# Altium schematic symbol library Integrated_Circuit.SchLib: 146 symbols (part 2 of 3)
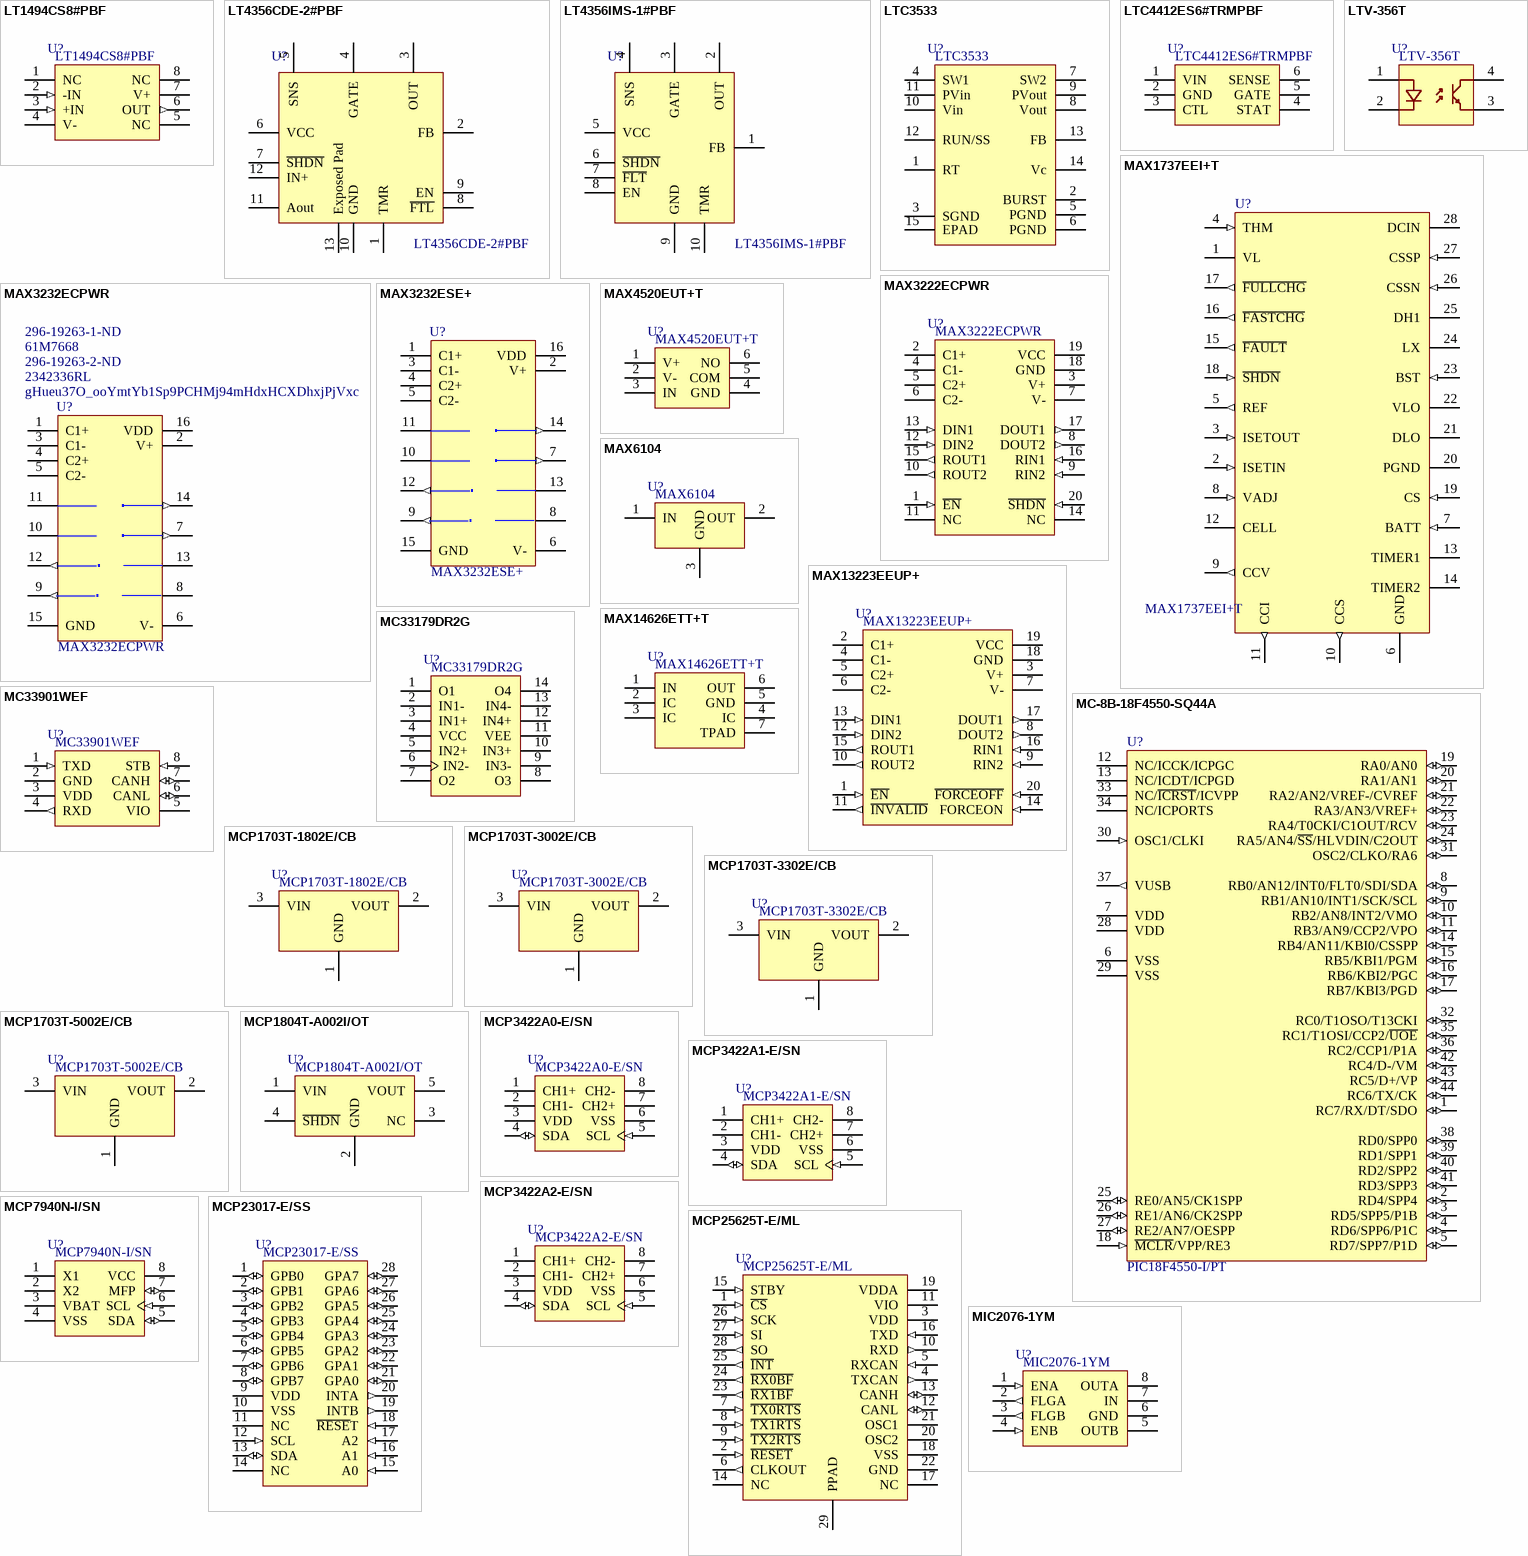
[diagram p10: symbols LT1494CS8#PBF to MIC2076-1YM]

## MCP23017-E/SS
designator U?
IC I/O EXPANDER I2C 16B 28SSOP; Manufacturer: Microchip; Mount Type: SMD; Category: IO Expander; Supplier 1: Newark; Supplier 2: Farnell; Supplier 3: Digi-Key; Supplier 4: Mouser; Supplier Part Number 1: 31K2960; Supplier Part Number 2: 1467674; Supplier Part Number 3: MCP23017-E/SS-ND; Supplier Part Number 4: 579-MCP23017-E/SS; Value: MCP23017-E/SS
footprint SSOP28
pins: 1 GPB0 (io), 2 GPB1 (io), 3 GPB2 (io), 4 GPB3 (io), 5 GPB4 (io), 6 GPB5 (io), 7 GPB6 (io), 8 GPB7 (io), 9 VDD (power), 10 VSS (power), 11 NC, 12 SCL (in), 13 SDA (io), 14 NC, 15 A0 (in), 16 A1 (in), 17 A2 (in), 18 ~{RESE}T (in), 19 INTB (out), 20 INTA (out), 21 GPA0 (io), 22 GPA1 (io), 23 GPA2 (io), 24 GPA3 (io), 25 GPA4 (io), 26 GPA5 (io), 27 GPA6 (io), 28 GPA7 (io)

## MCP25625T-E/ML
designator U?
IC TRANSCEIVER 1/1 28QFN; Manufacturer: Microchip Technology; Mount Type: SMD; Category: Interface; Value: MCP25625T-E/ML
footprint QFN-28 (QFN, 28 Pin, 0,65mm Pitch)
pins: 1 ~{CS} (in), 2 ~{RESET} (in), 3 VDD (power), 4 TXCAN (out), 5 RXCAN (in), 6 CLKOUT (out), 7 ~{TX0RTS} (in), 8 ~{TX1RTS} (in), 9 ~{TX2RTS} (in), 10 RXD (out), 11 VIO (power), 12 CANL (io), 13 CANH (io), 14 NC, 15 STBY (in), 16 TXD (in), 17 NC, 18 VSS (power), 19 VDDA (power), 20 OSC2, 21 OSC1, 22 GND (power), 23 ~{RX1BF} (out), 24 ~{RX0BF} (out), 25 ~{INT} (out), 26 SCK (in), 27 SI (in), 28 SO (out), 29 PPAD
1 alternate drawing of the same symbol

## MIC2076-1YM
designator U?
IC DISTRIBUTION SW DUAL 8-SOIC; Manufacturer: Microchip Technology; Mount Type: SMD; Category: Power Switch; Supplier 1: Farnell; Supplier Part Number 1: 2100282; Supplier 2: Digikey; Supplier Part Number 2: 576-2145-ND; Supplier 3: Arrow; Supplier Part Number 3: MIC2076-1YM; Supplier 4: Newark; Supplier Part Number 4: 93T9522; Supplier 5: Mouser; Supplier Part Number 5: 998-MIC2076-1YM; Value: MIC2076-1YM
footprint SOIC-8 (SOIC, 8 Pin, Pitch 1,27mm)
pins: 1 ENA (in), 2 FLGA (out), 3 FLGB (out), 4 ENB (in), 5 OUTB, 6 GND (power), 7 IN (power), 8 OUTA

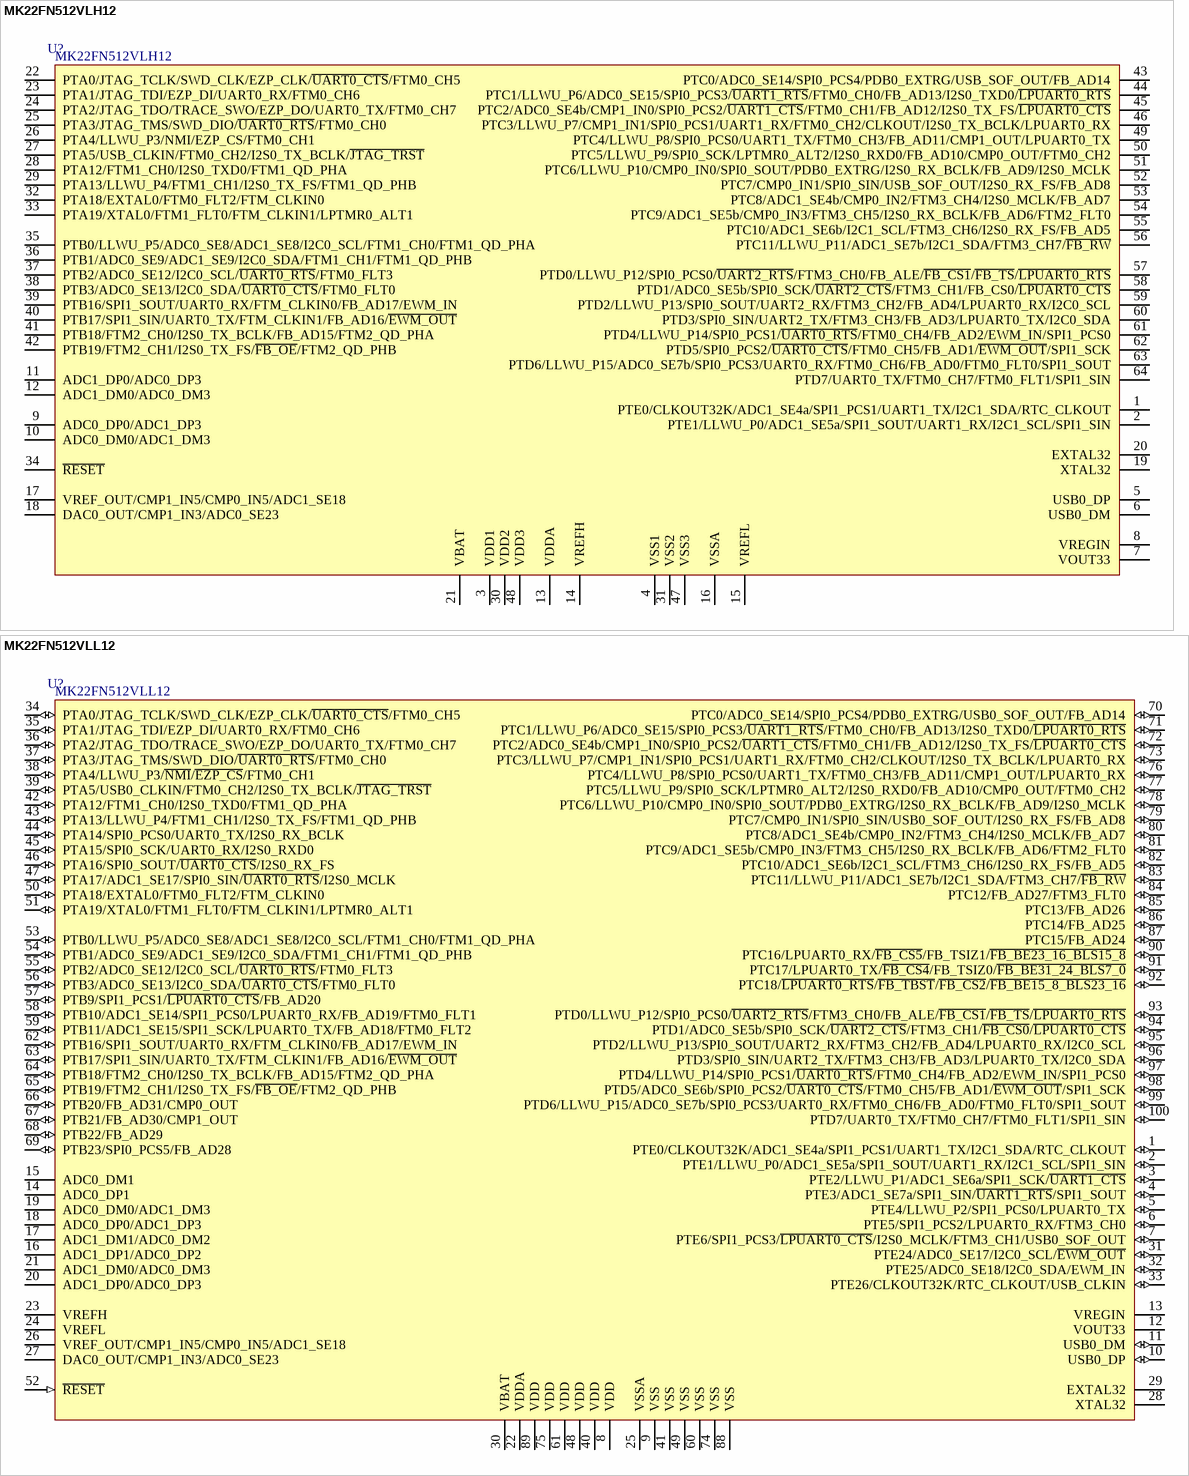
[diagram p4: symbols MK22FN512VLH12 to MK22FN512VLL12]

## MK22FN512VLH12
designator U?
IC MCU ARM 512KB FLASH 64LQFP; Manufacturer: Freescale Semiconductor; Mount type: SMD; Category: Microcontroller; Supplier 1: Digi-Key; Supplier Part Number 1: MK22FN512VLH12-ND; Supplier 2: Mouser; Supplier Part Number 2: 841-MK22FN512VLH12; Supplier 3: Farnell; Supplier Part Number 3: 2428289; Supplier 4: Farnell; Supplier Part Number 4: 2434224; Value: MK22FN512VLH12
footprint LQFP-64
pins: 1 PTE0/CLKOUT32K/ADC1_SE4a/SPI1_PCS1/UART1_TX/I2C1_SDA/RTC_CLKOUT, 2 PTE1/LLWU_P0/ADC1_SE5a/SPI1_SOUT/UART1_RX/I2C1_SCL/SPI1_SIN, 3 VDD1, 4 VSS1, 5 USB0_DP, 6 USB0_DM, 7 VOUT33, 8 VREGIN, 9 ADC0_DP0/ADC1_DP3, 10 ADC0_DM0/ADC1_DM3, 11 ADC1_DP0/ADC0_DP3, 12 ADC1_DM0/ADC0_DM3, 13 VDDA, 14 VREFH, 15 VREFL, 16 VSSA, 17 VREF_OUT/CMP1_IN5/CMP0_IN5/ADC1_SE18, 18 DAC0_OUT/CMP1_IN3/ADC0_SE23, 19 XTAL32, 20 EXTAL32, 21 VBAT, 22 PTA0/JTAG_TCLK/SWD_CLK/EZP_CLK/~{UART0_CTS}/FTM0_CH5, 23 PTA1/JTAG_TDI/EZP_DI/UART0_RX/FTM0_CH6, 24 PTA2/JTAG_TDO/TRACE_SWO/EZP_DO/UART0_TX/FTM0_CH7, 25 PTA3/JTAG_TMS/SWD_DIO/~{UART0_RTS}/FTM0_CH0, 26 PTA4/LLWU_P3/NMI/EZP_CS/FTM0_CH1, 27 PTA5/USB_CLKIN/FTM0_CH2/I2S0_TX_BCLK/~{JTAG_TRST}, 28 PTA12/FTM1_CH0/I2S0_TXD0/FTM1_QD_PHA, 29 PTA13/LLWU_P4/FTM1_CH1/I2S0_TX_FS/FTM1_QD_PHB, 30 VDD2, 31 VSS2, 32 PTA18/EXTAL0/FTM0_FLT2/FTM_CLKIN0, 33 PTA19/XTAL0/FTM1_FLT0/FTM_CLKIN1/LPTMR0_ALT1, 34 ~{RESET}, 35 PTB0/LLWU_P5/ADC0_SE8/ADC1_SE8/I2C0_SCL/FTM1_CH0/FTM1_QD_PHA, 36 PTB1/ADC0_SE9/ADC1_SE9/I2C0_SDA/FTM1_CH1/FTM1_QD_PHB, 37 PTB2/ADC0_SE12/I2C0_SCL/~{UART0_RTS}/FTM0_FLT3, 38 PTB3/ADC0_SE13/I2C0_SDA/~{UART0_CTS}/FTM0_FLT0, 39 PTB16/SPI1_SOUT/UART0_RX/FTM_CLKIN0/FB_AD17/EWM_IN, 40 PTB17/SPI1_SIN/UART0_TX/FTM_CLKIN1/FB_AD16/~{EWM_OUT}, 41 PTB18/FTM2_CH0/I2S0_TX_BCLK/FB_AD15/FTM2_QD_PHA, 42 PTB19/FTM2_CH1/I2S0_TX_FS/~{FB_OE}/FTM2_QD_PHB, 43 PTC0/ADC0_SE14/SPI0_PCS4/PDB0_EXTRG/USB_SOF_OUT/FB_AD14, 44 PTC1/LLWU_P6/ADC0_SE15/SPI0_PCS3/~{UART1_RTS}/FTM0_CH0/FB_AD13/I2S0_TXD0/~{LPUART0_RTS}, 45 PTC2/ADC0_SE4b/CMP1_IN0/SPI0_PCS2/~{UART1_CTS}/FTM0_CH1/FB_AD12/I2S0_TX_FS/~{LPUART0_CTS}, 46 PTC3/LLWU_P7/CMP1_IN1/SPI0_PCS1/UART1_RX/FTM0_CH2/CLKOUT/I2S0_TX_BCLK/LPUART0_RX, 47 VSS3, 48 VDD3, 49 PTC4/LLWU_P8/SPI0_PCS0/UART1_TX/FTM0_CH3/FB_AD11/CMP1_OUT/LPUART0_TX, 50 PTC5/LLWU_P9/SPI0_SCK/LPTMR0_ALT2/I2S0_RXD0/FB_AD10/CMP0_OUT/FTM0_CH2, 51 PTC6/LLWU_P10/CMP0_IN0/SPI0_SOUT/PDB0_EXTRG/I2S0_RX_BCLK/FB_AD9/I2S0_MCLK, 52 PTC7/CMP0_IN1/SPI0_SIN/USB_SOF_OUT/I2S0_RX_FS/FB_AD8, 53 PTC8/ADC1_SE4b/CMP0_IN2/FTM3_CH4/I2S0_MCLK/FB_AD7, 54 PTC9/ADC1_SE5b/CMP0_IN3/FTM3_CH5/I2S0_RX_BCLK/FB_AD6/FTM2_FLT0, 55 PTC10/ADC1_SE6b/I2C1_SCL/FTM3_CH6/I2S0_RX_FS/FB_AD5, 56 PTC11/LLWU_P11/ADC1_SE7b/I2C1_SDA/FTM3_CH7/~{FB_RW}, 57 PTD0/LLWU_P12/SPI0_PCS0/~{UART2_RTS}/FTM3_CH0/FB_ALE/~{FB_CS1}/~{FB_TS}/~{LPUART0_RTS}, 58 PTD1/ADC0_SE5b/SPI0_SCK/~{UART2_CTS}/FTM3_CH1/FB_CS0/~{LPUART0_CTS}, 59 PTD2/LLWU_P13/SPI0_SOUT/UART2_RX/FTM3_CH2/FB_AD4/LPUART0_RX/I2C0_SCL, 60 PTD3/SPI0_SIN/UART2_TX/FTM3_CH3/FB_AD3/LPUART0_TX/I2C0_SDA, 61 PTD4/LLWU_P14/SPI0_PCS1/~{UART0_RTS}/FTM0_CH4/FB_AD2/EWM_IN/SPI1_PCS0, 62 PTD5/SPI0_PCS2/~{UART0_CTS}/FTM0_CH5/FB_AD1/~{EWM_OUT}/SPI1_SCK, 63 PTD6/LLWU_P15/ADC0_SE7b/SPI0_PCS3/UART0_RX/FTM0_CH6/FB_AD0/FTM0_FLT0/SPI1_SOUT, 64 PTD7/UART0_TX/FTM0_CH7/FTM0_FLT1/SPI1_SIN

## MK22FN512VLL12
designator U?
IC MCU ARM 512KB FLASH 100LQFP; Manufacturer: Freescale Semiconductor; Mount type: SMD; Category: Microcontroller; Supplier 1: Digi-Key; Supplier Part Number 1: MK22FN512VLL12-ND; Supplier 2: Mouser; Supplier Part Number 2: 841-MK22FN512VLL12; Supplier 3: Newark; Supplier Part Number 3: 79X1565; Supplier 4: Farnell; Supplier Part Number 4: 2434225; Value: MK22FN512VLL12
footprint LQFP-100
pins: 1 PTE0/CLKOUT32K/ADC1_SE4a/SPI1_PCS1/UART1_TX/I2C1_SDA/RTC_CLKOUT (io), 2 PTE1/LLWU_P0/ADC1_SE5a/SPI1_SOUT/UART1_RX/I2C1_SCL/SPI1_SIN (io), 3 PTE2/LLWU_P1/ADC1_SE6a/SPI1_SCK/~{UART1_CTS} (io), 4 PTE3/ADC1_SE7a/SPI1_SIN/~{UART1_RTS}/SPI1_SOUT (io), 5 PTE4/LLWU_P2/SPI1_PCS0/LPUART0_TX (io), 6 PTE5/SPI1_PCS2/LPUART0_RX/FTM3_CH0 (io), 7 PTE6/SPI1_PCS3/~{LPUART0_CTS}/I2S0_MCLK/FTM3_CH1/USB0_SOF_OUT (io), 8 VDD (power), 9 VSS (power), 10 USB0_DP (io), 11 USB0_DM (io), 12 VOUT33, 13 VREGIN, 14 ADC0_DP1, 15 ADC0_DM1, 16 ADC1_DP1/ADC0_DP2, 17 ADC1_DM1/ADC0_DM2, 18 ADC0_DP0/ADC1_DP3, 19 ADC0_DM0/ADC1_DM3, 20 ADC1_DP0/ADC0_DP3, 21 ADC1_DM0/ADC0_DM3, 22 VDDA (power), 23 VREFH, 24 VREFL, 25 VSSA (power), 26 VREF_OUT/CMP1_IN5/CMP0_IN5/ADC1_SE18, 27 DAC0_OUT/CMP1_IN3/ADC0_SE23, 28 XTAL32, 29 EXTAL32, 30 VBAT (power), 31 PTE24/ADC0_SE17/I2C0_SCL/~{EWM_OUT} (io), 32 PTE25/ADC0_SE18/I2C0_SDA/EWM_IN (io), 33 PTE26/CLKOUT32K/RTC_CLKOUT/USB_CLKIN (io), 34 PTA0/JTAG_TCLK/SWD_CLK/EZP_CLK/~{UART0_CTS}/FTM0_CH5 (io), 35 PTA1/JTAG_TDI/EZP_DI/UART0_RX/FTM0_CH6 (io), 36 PTA2/JTAG_TDO/TRACE_SWO/EZP_DO/UART0_TX/FTM0_CH7 (io), 37 PTA3/JTAG_TMS/SWD_DIO/~{UART0_RTS}/FTM0_CH0 (io), 38 PTA4/LLWU_P3/~{NMI}/~{EZP_CS}/FTM0_CH1 (io), 39 PTA5/USB0_CLKIN/FTM0_CH2/I2S0_TX_BCLK/~{JTAG_TRST} (io), 40 VDD (power), 41 VSS (power), 42 PTA12/FTM1_CH0/I2S0_TXD0/FTM1_QD_PHA (io), 43 PTA13/LLWU_P4/FTM1_CH1/I2S0_TX_FS/FTM1_QD_PHB (io), 44 PTA14/SPI0_PCS0/UART0_TX/I2S0_RX_BCLK (io), 45 PTA15/SPI0_SCK/UART0_RX/I2S0_RXD0 (io), 46 PTA16/SPI0_SOUT/~{UART0_CTS}/I2S0_RX_FS (io), 47 PTA17/ADC1_SE17/SPI0_SIN/~{UART0_RTS}/I2S0_MCLK (io), 48 VDD (power), 49 VSS (power), 50 PTA18/EXTAL0/FTM0_FLT2/FTM_CLKIN0 (io), 51 PTA19/XTAL0/FTM1_FLT0/FTM_CLKIN1/LPTMR0_ALT1 (io), 52 ~{RESET} (in), 53 PTB0/LLWU_P5/ADC0_SE8/ADC1_SE8/I2C0_SCL/FTM1_CH0/FTM1_QD_PHA (io), 54 PTB1/ADC0_SE9/ADC1_SE9/I2C0_SDA/FTM1_CH1/FTM1_QD_PHB (io), 55 PTB2/ADC0_SE12/I2C0_SCL/~{UART0_RTS}/FTM0_FLT3 (io), 56 PTB3/ADC0_SE13/I2C0_SDA/~{UART0_CTS}/FTM0_FLT0 (io), 57 PTB9/SPI1_PCS1/~{LPUART0_CTS}/FB_AD20 (io), 58 PTB10/ADC1_SE14/SPI1_PCS0/LPUART0_RX/FB_AD19/FTM0_FLT1 (io), 59 PTB11/ADC1_SE15/SPI1_SCK/LPUART0_TX/FB_AD18/FTM0_FLT2 (io), 60 VSS (power), 61 VDD (power), 62 PTB16/SPI1_SOUT/UART0_RX/FTM_CLKIN0/FB_AD17/EWM_IN (io), 63 PTB17/SPI1_SIN/UART0_TX/FTM_CLKIN1/FB_AD16/~{EWM_OUT} (io), 64 PTB18/FTM2_CH0/I2S0_TX_BCLK/FB_AD15/FTM2_QD_PHA (io), 65 PTB19/FTM2_CH1/I2S0_TX_FS/~{FB_OE}/FTM2_QD_PHB (io), 66 PTB20/FB_AD31/CMP0_OUT (io), 67 PTB21/FB_AD30/CMP1_OUT (io), 68 PTB22/FB_AD29 (io), 69 PTB23/SPI0_PCS5/FB_AD28 (io), 70 PTC0/ADC0_SE14/SPI0_PCS4/PDB0_EXTRG/USB0_SOF_OUT/FB_AD14 (io), 71 PTC1/LLWU_P6/ADC0_SE15/SPI0_PCS3/~{UART1_RTS}/FTM0_CH0/FB_AD13/I2S0_TXD0/~{LPUART0_RTS} (io), 72 PTC2/ADC0_SE4b/CMP1_IN0/SPI0_PCS2/~{UART1_CTS}/FTM0_CH1/FB_AD12/I2S0_TX_FS/~{LPUART0_CTS} (io), 73 PTC3/LLWU_P7/CMP1_IN1/SPI0_PCS1/UART1_RX/FTM0_CH2/CLKOUT/I2S0_TX_BCLK/LPUART0_RX (io), 74 VSS (power), 75 VDD (power), 76 PTC4/LLWU_P8/SPI0_PCS0/UART1_TX/FTM0_CH3/FB_AD11/CMP1_OUT/LPUART0_RX (io), 77 PTC5/LLWU_P9/SPI0_SCK/LPTMR0_ALT2/I2S0_RXD0/FB_AD10/CMP0_OUT/FTM0_CH2 (io), 78 PTC6/LLWU_P10/CMP0_IN0/SPI0_SOUT/PDB0_EXTRG/I2S0_RX_BCLK/FB_AD9/I2S0_MCLK (io), 79 PTC7/CMP0_IN1/SPI0_SIN/USB0_SOF_OUT/I2S0_RX_FS/FB_AD8 (io), 80 PTC8/ADC1_SE4b/CMP0_IN2/FTM3_CH4/I2S0_MCLK/FB_AD7 (io), 81 PTC9/ADC1_SE5b/CMP0_IN3/FTM3_CH5/I2S0_RX_BCLK/FB_AD6/FTM2_FLT0 (io), 82 PTC10/ADC1_SE6b/I2C1_SCL/FTM3_CH6/I2S0_RX_FS/FB_AD5 (io), 83 PTC11/LLWU_P11/ADC1_SE7b/I2C1_SDA/FTM3_CH7/~{FB_RW} (io), 84 PTC12/FB_AD27/FTM3_FLT0 (io), 85 PTC13/FB_AD26 (io), 86 PTC14/FB_AD25 (io), 87 PTC15/FB_AD24 (io), 88 VSS (power), 89 VDD (power), 90 PTC16/LPUART0_RX/~{FB_CS5}/FB_TSIZ1/~{FB_BE23_16_BLS15_8} (io), 91 PTC17/LPUART0_TX/~{FB_CS4}/FB_TSIZ0/~{FB_BE31_24_BLS7_0} (io), 92 PTC18/~{LPUART0_RTS}/~{FB_TBST}/~{FB_CS2}/~{FB_BE15_8_BLS23_16} (io), 93 PTD0/LLWU_P12/SPI0_PCS0/~{UART2_RTS}/FTM3_CH0/FB_ALE/~{FB_CS1}/~{FB_TS}/~{LPUART0_RTS} (io), 94 PTD1/ADC0_SE5b/SPI0_SCK/~{UART2_CTS}/FTM3_CH1/~{FB_CS0}/~{LPUART0_CTS} (io), 95 PTD2/LLWU_P13/SPI0_SOUT/UART2_RX/FTM3_CH2/FB_AD4/LPUART0_RX/I2C0_SCL (io), 96 PTD3/SPI0_SIN/UART2_TX/FTM3_CH3/FB_AD3/LPUART0_TX/I2C0_SDA (io), 97 PTD4/LLWU_P14/SPI0_PCS1/~{UART0_RTS}/FTM0_CH4/FB_AD2/EWM_IN/SPI1_PCS0 (io), 98 PTD5/ADC0_SE6b/SPI0_PCS2/~{UART0_CTS}/FTM0_CH5/FB_AD1/~{EWM_OUT}/SPI1_SCK (io), 99 PTD6/LLWU_P15/ADC0_SE7b/SPI0_PCS3/UART0_RX/FTM0_CH6/FB_AD0/FTM0_FLT0/SPI1_SOUT (io), 100 PTD7/UART0_TX/FTM0_CH7/FTM0_FLT1/SPI1_SIN (io)

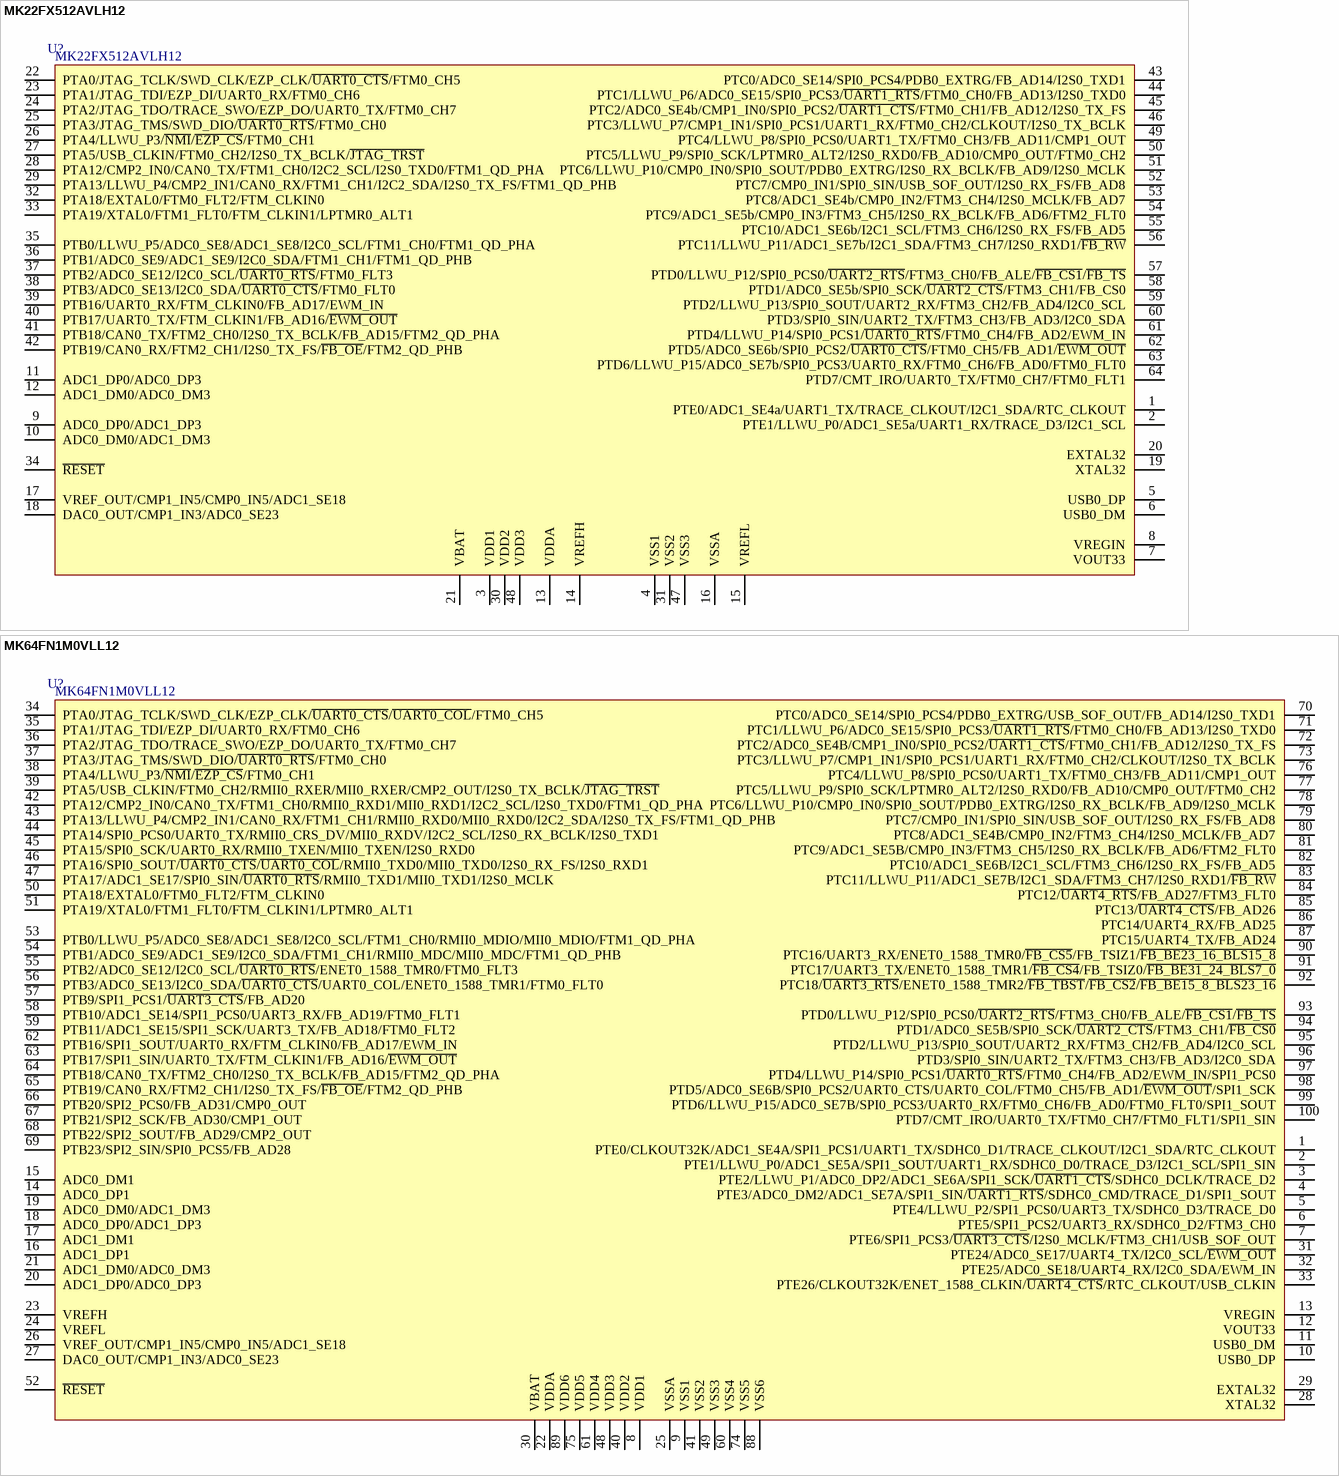
[diagram p5: symbols MK22FX512AVLH12 to MK64FN1M0VLL12]

## MK22FX512AVLH12
designator U?
IC MCU 32BIT 512KB FLASH 64LQFP; Manufacturer: Freescale Semiconductor; Mount type: SMD; Category: Microcontroller; Supplier 1: Digi-Key; Supplier Part Number 1: MK22FX512AVLH12-ND; Supplier 2: Newark; Supplier Part Number 2: 30Y6733; Value: MK22FX512AVLH12
footprint LQFP-64
pins: 1 PTE0/ADC1_SE4a/UART1_TX/TRACE_CLKOUT/I2C1_SDA/RTC_CLKOUT, 2 PTE1/LLWU_P0/ADC1_SE5a/UART1_RX/TRACE_D3/I2C1_SCL, 3 VDD1, 4 VSS1, 5 USB0_DP, 6 USB0_DM, 7 VOUT33, 8 VREGIN, 9 ADC0_DP0/ADC1_DP3, 10 ADC0_DM0/ADC1_DM3, 11 ADC1_DP0/ADC0_DP3, 12 ADC1_DM0/ADC0_DM3, 13 VDDA, 14 VREFH, 15 VREFL, 16 VSSA, 17 VREF_OUT/CMP1_IN5/CMP0_IN5/ADC1_SE18, 18 DAC0_OUT/CMP1_IN3/ADC0_SE23, 19 XTAL32, 20 EXTAL32, 21 VBAT, 22 PTA0/JTAG_TCLK/SWD_CLK/EZP_CLK/~{UART0_CTS}/FTM0_CH5, 23 PTA1/JTAG_TDI/EZP_DI/UART0_RX/FTM0_CH6, 24 PTA2/JTAG_TDO/TRACE_SWO/EZP_DO/UART0_TX/FTM0_CH7, 25 PTA3/JTAG_TMS/SWD_DIO/~{UART0_RTS}/FTM0_CH0, 26 PTA4/LLWU_P3/~{NMI}/~{EZP_CS}/FTM0_CH1, 27 PTA5/USB_CLKIN/FTM0_CH2/I2S0_TX_BCLK/~{JTAG_TRST}, 28 PTA12/CMP2_IN0/CAN0_TX/FTM1_CH0/I2C2_SCL/I2S0_TXD0/FTM1_QD_PHA, 29 PTA13/LLWU_P4/CMP2_IN1/CAN0_RX/FTM1_CH1/I2C2_SDA/I2S0_TX_FS/FTM1_QD_PHB, 30 VDD2, 31 VSS2, 32 PTA18/EXTAL0/FTM0_FLT2/FTM_CLKIN0, 33 PTA19/XTAL0/FTM1_FLT0/FTM_CLKIN1/LPTMR0_ALT1, 34 ~{RESET}, 35 PTB0/LLWU_P5/ADC0_SE8/ADC1_SE8/I2C0_SCL/FTM1_CH0/FTM1_QD_PHA, 36 PTB1/ADC0_SE9/ADC1_SE9/I2C0_SDA/FTM1_CH1/FTM1_QD_PHB, 37 PTB2/ADC0_SE12/I2C0_SCL/~{UART0_RTS}/FTM0_FLT3, 38 PTB3/ADC0_SE13/I2C0_SDA/~{UART0_CTS}/FTM0_FLT0, 39 PTB16/UART0_RX/FTM_CLKIN0/FB_AD17/EWM_IN, 40 PTB17/UART0_TX/FTM_CLKIN1/FB_AD16/~{EWM_OUT}, 41 PTB18/CAN0_TX/FTM2_CH0/I2S0_TX_BCLK/FB_AD15/FTM2_QD_PHA, 42 PTB19/CAN0_RX/FTM2_CH1/I2S0_TX_FS/~{FB_OE}/FTM2_QD_PHB, 43 PTC0/ADC0_SE14/SPI0_PCS4/PDB0_EXTRG/FB_AD14/I2S0_TXD1, 44 PTC1/LLWU_P6/ADC0_SE15/SPI0_PCS3/~{UART1_RTS}/FTM0_CH0/FB_AD13/I2S0_TXD0, 45 PTC2/ADC0_SE4b/CMP1_IN0/SPI0_PCS2/~{UART1_CTS}/FTM0_CH1/FB_AD12/I2S0_TX_FS, 46 PTC3/LLWU_P7/CMP1_IN1/SPI0_PCS1/UART1_RX/FTM0_CH2/CLKOUT/I2S0_TX_BCLK, 47 VSS3, 48 VDD3, 49 PTC4/LLWU_P8/SPI0_PCS0/UART1_TX/FTM0_CH3/FB_AD11/CMP1_OUT, 50 PTC5/LLWU_P9/SPI0_SCK/LPTMR0_ALT2/I2S0_RXD0/FB_AD10/CMP0_OUT/FTM0_CH2, 51 PTC6/LLWU_P10/CMP0_IN0/SPI0_SOUT/PDB0_EXTRG/I2S0_RX_BCLK/FB_AD9/I2S0_MCLK, 52 PTC7/CMP0_IN1/SPI0_SIN/USB_SOF_OUT/I2S0_RX_FS/FB_AD8, 53 PTC8/ADC1_SE4b/CMP0_IN2/FTM3_CH4/I2S0_MCLK/FB_AD7, 54 PTC9/ADC1_SE5b/CMP0_IN3/FTM3_CH5/I2S0_RX_BCLK/FB_AD6/FTM2_FLT0, 55 PTC10/ADC1_SE6b/I2C1_SCL/FTM3_CH6/I2S0_RX_FS/FB_AD5, 56 PTC11/LLWU_P11/ADC1_SE7b/I2C1_SDA/FTM3_CH7/I2S0_RXD1/~{FB_RW}, 57 PTD0/LLWU_P12/SPI0_PCS0/~{UART2_RTS}/FTM3_CH0/FB_ALE/~{FB_CS1}/~{FB_TS}, 58 PTD1/ADC0_SE5b/SPI0_SCK/~{UART2_CTS}/FTM3_CH1/FB_CS0, 59 PTD2/LLWU_P13/SPI0_SOUT/UART2_RX/FTM3_CH2/FB_AD4/I2C0_SCL, 60 PTD3/SPI0_SIN/UART2_TX/FTM3_CH3/FB_AD3/I2C0_SDA, 61 PTD4/LLWU_P14/SPI0_PCS1/~{UART0_RTS}/FTM0_CH4/FB_AD2/EWM_IN, 62 PTD5/ADC0_SE6b/SPI0_PCS2/~{UART0_CTS}/FTM0_CH5/FB_AD1/~{EWM_OUT}, 63 PTD6/LLWU_P15/ADC0_SE7b/SPI0_PCS3/UART0_RX/FTM0_CH6/FB_AD0/FTM0_FLT0, 64 PTD7/CMT_IRO/UART0_TX/FTM0_CH7/FTM0_FLT1

## MK64FN1M0VLL12
designator U?
IC MCU KINETIS 1MB 100LQFP; Manufacturer: Freescale Semiconductor; Mount type: SMD; Category: Microcontroller; Supplier 1: Digi-Key; Supplier Part Number 1: MK64FN1M0VLL12-ND; Value: MK64FN1M0VLL12
footprint LQFP-100
pins: 1 PTE0/CLKOUT32K/ADC1_SE4A/SPI1_PCS1/UART1_TX/SDHC0_D1/TRACE_CLKOUT/I2C1_SDA/RTC_CLKOUT, 2 PTE1/LLWU_P0/ADC1_SE5A/SPI1_SOUT/UART1_RX/SDHC0_D0/TRACE_D3/I2C1_SCL/SPI1_SIN, 3 PTE2/LLWU_P1/ADC0_DP2/ADC1_SE6A/SPI1_SCK/~{UART1_CTS}/SDHC0_DCLK/TRACE_D2, 4 PTE3/ADC0_DM2/ADC1_SE7A/SPI1_SIN/~{UART1_RTS}/SDHC0_CMD/TRACE_D1/SPI1_SOUT, 5 PTE4/LLWU_P2/SPI1_PCS0/UART3_TX/SDHC0_D3/TRACE_D0, 6 PTE5/SPI1_PCS2/UART3_RX/SDHC0_D2/FTM3_CH0, 7 PTE6/SPI1_PCS3/~{UART3_CTS}/I2S0_MCLK/FTM3_CH1/USB_SOF_OUT, 8 VDD1, 9 VSS1, 10 USB0_DP, 11 USB0_DM, 12 VOUT33, 13 VREGIN, 14 ADC0_DP1, 15 ADC0_DM1, 16 ADC1_DP1, 17 ADC1_DM1, 18 ADC0_DP0/ADC1_DP3, 19 ADC0_DM0/ADC1_DM3, 20 ADC1_DP0/ADC0_DP3, 21 ADC1_DM0/ADC0_DM3, 22 VDDA, 23 VREFH, 24 VREFL, 25 VSSA, 26 VREF_OUT/CMP1_IN5/CMP0_IN5/ADC1_SE18, 27 DAC0_OUT/CMP1_IN3/ADC0_SE23, 28 XTAL32, 29 EXTAL32, 30 VBAT, 31 PTE24/ADC0_SE17/UART4_TX/I2C0_SCL/~{EWM_OUT}, 32 PTE25/ADC0_SE18/UART4_RX/I2C0_SDA/EWM_IN, 33 PTE26/CLKOUT32K/ENET_1588_CLKIN/~{UART4_CTS}/RTC_CLKOUT/USB_CLKIN, 34 PTA0/JTAG_TCLK/SWD_CLK/EZP_CLK/~{UART0_CTS}/~{UART0_COL}/FTM0_CH5, 35 PTA1/JTAG_TDI/EZP_DI/UART0_RX/FTM0_CH6, 36 PTA2/JTAG_TDO/TRACE_SWO/EZP_DO/UART0_TX/FTM0_CH7, 37 PTA3/JTAG_TMS/SWD_DIO/~{UART0_RTS}/FTM0_CH0, 38 PTA4/LLWU_P3/~{NMI}/~{EZP_CS}/FTM0_CH1, 39 PTA5/USB_CLKIN/FTM0_CH2/RMII0_RXER/MII0_RXER/CMP2_OUT/I2S0_TX_BCLK/~{JTAG_TRST}, 40 VDD2, 41 VSS2, 42 PTA12/CMP2_IN0/CAN0_TX/FTM1_CH0/RMII0_RXD1/MII0_RXD1/I2C2_SCL/I2S0_TXD0/FTM1_QD_PHA, 43 PTA13/LLWU_P4/CMP2_IN1/CAN0_RX/FTM1_CH1/RMII0_RXD0/MII0_RXD0/I2C2_SDA/I2S0_TX_FS/FTM1_QD_PHB, 44 PTA14/SPI0_PCS0/UART0_TX/RMII0_CRS_DV/MII0_RXDV/I2C2_SCL/I2S0_RX_BCLK/I2S0_TXD1, 45 PTA15/SPI0_SCK/UART0_RX/RMII0_TXEN/MII0_TXEN/I2S0_RXD0, 46 PTA16/SPI0_SOUT/~{UART0_CTS}/~{UART0_COL}/RMII0_TXD0/MII0_TXD0/I2S0_RX_FS/I2S0_RXD1, 47 PTA17/ADC1_SE17/SPI0_SIN/~{UART0_RTS}/RMII0_TXD1/MII0_TXD1/I2S0_MCLK, 48 VDD3, 49 VSS3, 50 PTA18/EXTAL0/FTM0_FLT2/FTM_CLKIN0, 51 PTA19/XTAL0/FTM1_FLT0/FTM_CLKIN1/LPTMR0_ALT1, 52 ~{RESET}, 53 PTB0/LLWU_P5/ADC0_SE8/ADC1_SE8/I2C0_SCL/FTM1_CH0/RMII0_MDIO/MII0_MDIO/FTM1_QD_PHA, 54 PTB1/ADC0_SE9/ADC1_SE9/I2C0_SDA/FTM1_CH1/RMII0_MDC/MII0_MDC/FTM1_QD_PHB, 55 PTB2/ADC0_SE12/I2C0_SCL/~{UART0_RTS}/ENET0_1588_TMR0/FTM0_FLT3, 56 PTB3/ADC0_SE13/I2C0_SDA/~{UART0_CTS}/UART0_COL/ENET0_1588_TMR1/FTM0_FLT0, 57 PTB9/SPI1_PCS1/~{UART3_CTS}/FB_AD20, 58 PTB10/ADC1_SE14/SPI1_PCS0/UART3_RX/FB_AD19/FTM0_FLT1, 59 PTB11/ADC1_SE15/SPI1_SCK/UART3_TX/FB_AD18/FTM0_FLT2, 60 VSS4, 61 VDD4, 62 PTB16/SPI1_SOUT/UART0_RX/FTM_CLKIN0/FB_AD17/EWM_IN, 63 PTB17/SPI1_SIN/UART0_TX/FTM_CLKIN1/FB_AD16/~{EWM_OUT}, 64 PTB18/CAN0_TX/FTM2_CH0/I2S0_TX_BCLK/FB_AD15/FTM2_QD_PHA, 65 PTB19/CAN0_RX/FTM2_CH1/I2S0_TX_FS/~{FB_OE}/FTM2_QD_PHB, 66 PTB20/SPI2_PCS0/FB_AD31/CMP0_OUT, 67 PTB21/SPI2_SCK/FB_AD30/CMP1_OUT, 68 PTB22/SPI2_SOUT/FB_AD29/CMP2_OUT, 69 PTB23/SPI2_SIN/SPI0_PCS5/FB_AD28, 70 PTC0/ADC0_SE14/SPI0_PCS4/PDB0_EXTRG/USB_SOF_OUT/FB_AD14/I2S0_TXD1, 71 PTC1/LLWU_P6/ADC0_SE15/SPI0_PCS3/~{UART1_RTS}/FTM0_CH0/FB_AD13/I2S0_TXD0, 72 PTC2/ADC0_SE4B/CMP1_IN0/SPI0_PCS2/~{UART1_CTS}/FTM0_CH1/FB_AD12/I2S0_TX_FS, 73 PTC3/LLWU_P7/CMP1_IN1/SPI0_PCS1/UART1_RX/FTM0_CH2/CLKOUT/I2S0_TX_BCLK, 74 VSS5, 75 VDD5, 76 PTC4/LLWU_P8/SPI0_PCS0/UART1_TX/FTM0_CH3/FB_AD11/CMP1_OUT, 77 PTC5/LLWU_P9/SPI0_SCK/LPTMR0_ALT2/I2S0_RXD0/FB_AD10/CMP0_OUT/FTM0_CH2, 78 PTC6/LLWU_P10/CMP0_IN0/SPI0_SOUT/PDB0_EXTRG/I2S0_RX_BCLK/FB_AD9/I2S0_MCLK, 79 PTC7/CMP0_IN1/SPI0_SIN/USB_SOF_OUT/I2S0_RX_FS/FB_AD8, 80 PTC8/ADC1_SE4B/CMP0_IN2/FTM3_CH4/I2S0_MCLK/FB_AD7, 81 PTC9/ADC1_SE5B/CMP0_IN3/FTM3_CH5/I2S0_RX_BCLK/FB_AD6/FTM2_FLT0, 82 PTC10/ADC1_SE6B/I2C1_SCL/FTM3_CH6/I2S0_RX_FS/FB_AD5, 83 PTC11/LLWU_P11/ADC1_SE7B/I2C1_SDA/FTM3_CH7/I2S0_RXD1/~{FB_RW}, 84 PTC12/~{UART4_RTS}/FB_AD27/FTM3_FLT0, 85 PTC13/~{UART4_CTS}/FB_AD26, 86 PTC14/UART4_RX/FB_AD25, 87 PTC15/UART4_TX/FB_AD24, 88 VSS6, 89 VDD6, 90 PTC16/UART3_RX/ENET0_1588_TMR0/~{FB_CS5}/FB_TSIZ1/~{FB_BE23_16_BLS15_8}, 91 PTC17/UART3_TX/ENET0_1588_TMR1/~{FB_CS4}/FB_TSIZ0/~{FB_BE31_24_BLS7_0}, 92 PTC18/~{UART3_RTS}/ENET0_1588_TMR2/~{FB_TBST}/~{FB_CS2}/~{FB_BE15_8_BLS23_16}, 93 PTD0/LLWU_P12/SPI0_PCS0/~{UART2_RTS}/FTM3_CH0/FB_ALE/~{FB_CS1}/~{FB_TS}, 94 PTD1/ADC0_SE5B/SPI0_SCK/~{UART2_CTS}/FTM3_CH1/~{FB_CS0}, 95 PTD2/LLWU_P13/SPI0_SOUT/UART2_RX/FTM3_CH2/FB_AD4/I2C0_SCL, 96 PTD3/SPI0_SIN/UART2_TX/FTM3_CH3/FB_AD3/I2C0_SDA, 97 PTD4/LLWU_P14/SPI0_PCS1/~{UART0_RTS}/FTM0_CH4/FB_AD2/EWM_IN/SPI1_PCS0, 98 PTD5/ADC0_SE6B/SPI0_PCS2/UART0_CTS/UART0_COL/FTM0_CH5/FB_AD1/~{EWM_OUT}/SPI1_SCK, 99 PTD6/LLWU_P15/ADC0_SE7B/SPI0_PCS3/UART0_RX/FTM0_CH6/FB_AD0/FTM0_FLT0/SPI1_SOUT, 100 PTD7/CMT_IRO/UART0_TX/FTM0_CH7/FTM0_FLT1/SPI1_SIN

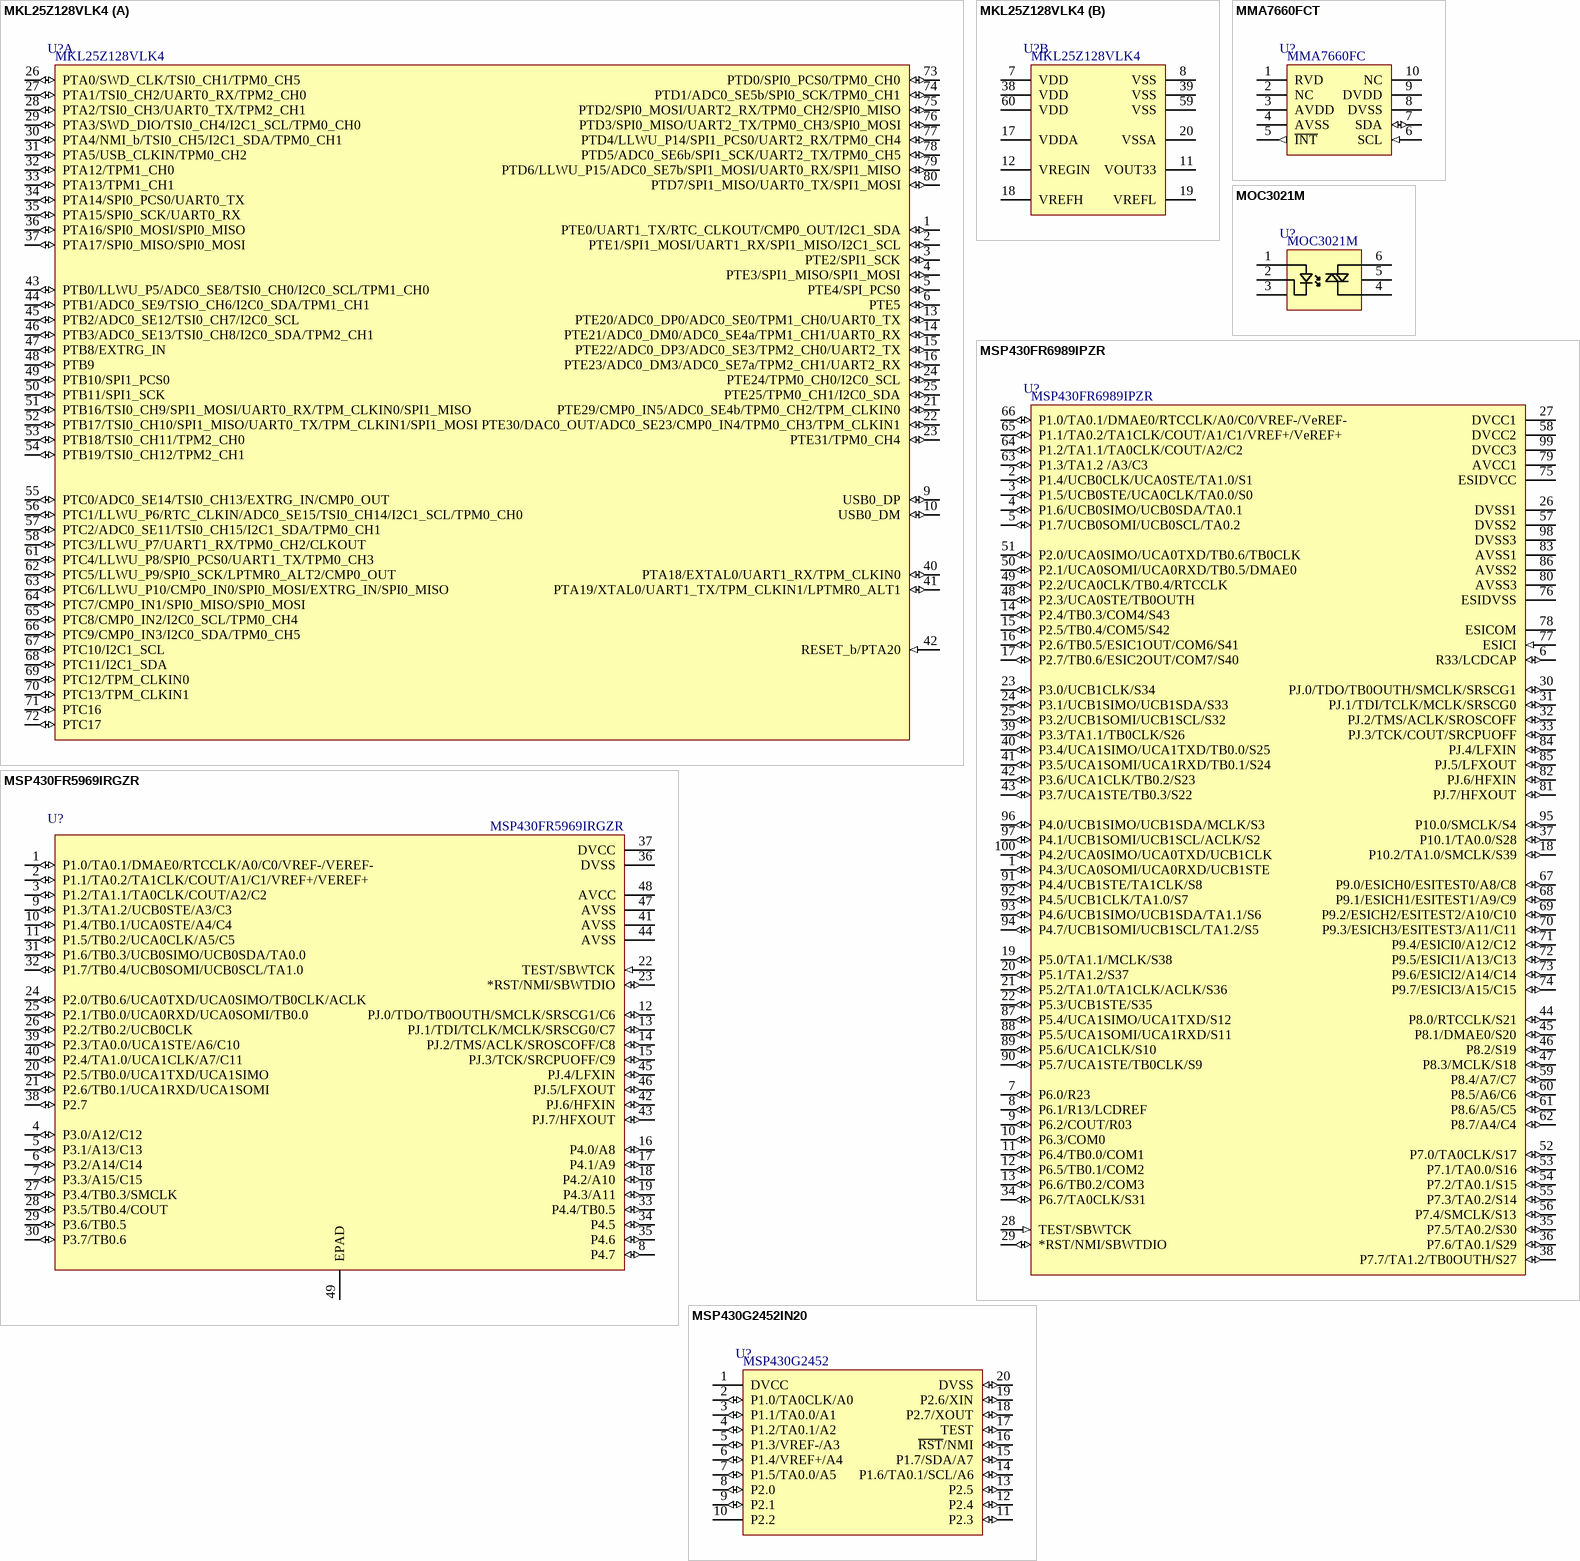
[diagram p6: symbols MKL25Z128VLK4 to MSP430G2452IN20]

## MKL25Z128VLK4
designator U?
IC MCU 32BIT 128KB FLASH 80LQFP; Manufacturer: Freescale; Category: Microcontroller; Mount Type: SMD; Supplier 1: Newark; Supplier 2: Digi-Key; Supplier 3: Farnell; Supplier 4: Mouser; Supplier Part Number 1: 44W0180; Supplier Part Number 2: MKL25Z128VLK4-ND; Supplier Part Number 3: 2212797; Supplier Part Number 4: 841-MKL25Z128VLK4; Value: MKL25Z128VLK4
footprint LQFP-80
part A pins: 1 PTE0/UART1_TX/RTC_CLKOUT/CMP0_OUT/I2C1_SDA (io), 2 PTE1/SPI1_MOSI/UART1_RX/SPI1_MISO/I2C1_SCL (io), 3 PTE2/SPI1_SCK (io), 4 PTE3/SPI1_MISO/SPI1_MOSI (io), 5 PTE4/SPI_PCS0 (io), 6 PTE5 (io), 9 USB0_DP (io), 10 USB0_DM (io), 13 PTE20/ADC0_DP0/ADC0_SE0/TPM1_CH0/UART0_TX (io), 14 PTE21/ADC0_DM0/ADC0_SE4a/TPM1_CH1/UART0_RX (io), 15 PTE22/ADC0_DP3/ADC0_SE3/TPM2_CH0/UART2_TX (io), 16 PTE23/ADC0_DM3/ADC0_SE7a/TPM2_CH1/UART2_RX (io), 21 PTE29/CMP0_IN5/ADC0_SE4b/TPM0_CH2/TPM_CLKIN0 (io), 22 PTE30/DAC0_OUT/ADC0_SE23/CMP0_IN4/TPM0_CH3/TPM_CLKIN1 (io), 23 PTE31/TPM0_CH4 (io), 24 PTE24/TPM0_CH0/I2C0_SCL (io), 25 PTE25/TPM0_CH1/I2C0_SDA (io), 26 PTA0/SWD_CLK/TSI0_CH1/TPM0_CH5 (io), 27 PTA1/TSI0_CH2/UART0_RX/TPM2_CH0 (io), 28 PTA2/TSI0_CH3/UART0_TX/TPM2_CH1 (io), 29 PTA3/SWD_DIO/TSI0_CH4/I2C1_SCL/TPM0_CH0 (io), 30 PTA4/NMI_b/TSI0_CH5/I2C1_SDA/TPM0_CH1 (io), 31 PTA5/USB_CLKIN/TPM0_CH2 (io), 32 PTA12/TPM1_CH0 (io), 33 PTA13/TPM1_CH1 (io), 34 PTA14/SPI0_PCS0/UART0_TX (io), 35 PTA15/SPI0_SCK/UART0_RX (io), 36 PTA16/SPI0_MOSI/SPI0_MISO (io), 37 PTA17/SPI0_MISO/SPI0_MOSI (io), 40 PTA18/EXTAL0/UART1_RX/TPM_CLKIN0 (io), 41 PTA19/XTAL0/UART1_TX/TPM_CLKIN1/LPTMR0_ALT1 (io), 42 RESET_b/PTA20 (in), 43 PTB0/LLWU_P5/ADC0_SE8/TSI0_CH0/I2C0_SCL/TPM1_CH0 (io), 44 PTB1/ADC0_SE9/TSIO_CH6/I2C0_SDA/TPM1_CH1 (io), 45 PTB2/ADC0_SE12/TSI0_CH7/I2C0_SCL (io), 46 PTB3/ADC0_SE13/TSI0_CH8/I2C0_SDA/TPM2_CH1 (io), 47 PTB8/EXTRG_IN (io), 48 PTB9 (io), 49 PTB10/SPI1_PCS0 (io), 50 PTB11/SPI1_SCK (io), 51 PTB16/TSI0_CH9/SPI1_MOSI/UART0_RX/TPM_CLKIN0/SPI1_MISO (io), 52 PTB17/TSI0_CH10/SPI1_MISO/UART0_TX/TPM_CLKIN1/SPI1_MOSI (io), 53 PTB18/TSI0_CH11/TPM2_CH0 (io), 54 PTB19/TSI0_CH12/TPM2_CH1 (io), 55 PTC0/ADC0_SE14/TSI0_CH13/EXTRG_IN/CMP0_OUT (io), 56 PTC1/LLWU_P6/RTC_CLKIN/ADC0_SE15/TSI0_CH14/I2C1_SCL/TPM0_CH0 (io), 57 PTC2/ADC0_SE11/TSI0_CH15/I2C1_SDA/TPM0_CH1 (io), 58 PTC3/LLWU_P7/UART1_RX/TPM0_CH2/CLKOUT (io), 61 PTC4/LLWU_P8/SPI0_PCS0/UART1_TX/TPM0_CH3 (io), 62 PTC5/LLWU_P9/SPI0_SCK/LPTMR0_ALT2/CMP0_OUT (io), 63 PTC6/LLWU_P10/CMP0_IN0/SPI0_MOSI/EXTRG_IN/SPI0_MISO (io), 64 PTC7/CMP0_IN1/SPI0_MISO/SPI0_MOSI (io), 65 PTC8/CMP0_IN2/I2C0_SCL/TPM0_CH4 (io), 66 PTC9/CMP0_IN3/I2C0_SDA/TPM0_CH5 (io), 67 PTC10/I2C1_SCL (io), 68 PTC11/I2C1_SDA (io), 69 PTC12/TPM_CLKIN0 (io), 70 PTC13/TPM_CLKIN1 (io), 71 PTC16 (io), 72 PTC17 (io), 73 PTD0/SPI0_PCS0/TPM0_CH0 (io), 74 PTD1/ADC0_SE5b/SPI0_SCK/TPM0_CH1 (io), 75 PTD2/SPI0_MOSI/UART2_RX/TPM0_CH2/SPI0_MISO (io), 76 PTD3/SPI0_MISO/UART2_TX/TPM0_CH3/SPI0_MOSI (io), 77 PTD4/LLWU_P14/SPI1_PCS0/UART2_RX/TPM0_CH4 (io), 78 PTD5/ADC0_SE6b/SPI1_SCK/UART2_TX/TPM0_CH5 (io), 79 PTD6/LLWU_P15/ADC0_SE7b/SPI1_MOSI/UART0_RX/SPI1_MISO (io), 80 PTD7/SPI1_MISO/UART0_TX/SPI1_MOSI (io)
part B pins: 7 VDD (power), 8 VSS (power), 11 VOUT33 (power), 12 VREGIN (power), 17 VDDA (power), 18 VREFH, 19 VREFL, 20 VSSA, 38 VDD (power), 39 VSS (power), 59 VSS (power), 60 VDD (power)

## MMA7660FCT
designator U?  value MMA7660FC  (hidden comment: MMA7660FCT)
ACCELEROMETER 3X3 DGTL 10-DFN; Manufacturer: Freescale Semiconductor; Mount Type: SMD; Category: Accelerometer; Supplier 1: Digi-Key; Supplier 2: Arrow; Supplier 3: Farnell; Supplier 4: Newark; Supplier Part Number 1: MMA7660FCT-ND; Supplier Part Number 2: 47069215S8181832N3691; Supplier Part Number 3: 1739551; Supplier Part Number 4: 74P0442
footprint 10-VFDFN (10 Lead DFN)
pins: 1 RVD, 2 NC, 3 AVDD (power), 4 AVSS, 5 ~{INT} (out), 6 SCL (in), 7 SDA (io), 8 DVSS (power), 9 DVDD (power), 10 NC

## MOC3021M
designator U?
OPTOISOLATOR 5.3KV TRIAC 6DIP; Manufacturer: Fairchild Semiconductor; Mount Type: SMD; Category: Optoisolator; Supplier 1: Farnell; Supplier Part Number 1: 1021365; Supplier 2: Mouser; Supplier Part Number 2: 512-MOC3021M; Supplier 3: Digi-Key; Supplier Part Number 3: MOC3021MFS-ND; Supplier 4: Newark; Supplier Part Number 4: 95B7895; Value: MOC3021M
footprint DIP-6 (DIP, 8-Pin, Row Spacing 7.62 mm, Pitch 2.54 mm)
pins: 1 A, 2 NC, 3 K, 4 K2, 5 NC, 6 K1

## MSP430FR5969IRGZR
designator U?
IC MCU 16BIT 64KB FRAM 48VQFN; Manufacturer: Texas Instruments; Mount Type: SMD; Category: Microcontroller; Value: MSP430FR5969IRGZR
footprint VQFN-48
pins: 1 P1.0/TA0.1/DMAE0/RTCCLK/A0/C0/VREF-/VEREF- (io), 2 P1.1/TA0.2/TA1CLK/COUT/A1/C1/VREF+/VEREF+ (io), 3 P1.2/TA1.1/TA0CLK/COUT/A2/C2 (io), 4 P3.0/A12/C12 (io), 5 P3.1/A13/C13 (io), 6 P3.2/A14/C14 (io), 7 P3.3/A15/C15 (io), 8 P4.7 (io), 9 P1.3/TA1.2/UCB0STE/A3/C3 (io), 10 P1.4/TB0.1/UCA0STE/A4/C4 (io), 11 P1.5/TB0.2/UCA0CLK/A5/C5 (io), 12 PJ.0/TDO/TB0OUTH/SMCLK/SRSCG1/C6 (io), 13 PJ.1/TDI/TCLK/MCLK/SRSCG0/C7 (io), 14 PJ.2/TMS/ACLK/SROSCOFF/C8 (io), 15 PJ.3/TCK/SRCPUOFF/C9 (io), 16 P4.0/A8 (io), 17 P4.1/A9 (io), 18 P4.2/A10 (io), 19 P4.3/A11 (io), 20 P2.5/TB0.0/UCA1TXD/UCA1SIMO (io), 21 P2.6/TB0.1/UCA1RXD/UCA1SOMI (io), 22 TEST/SBWTCK (in), 23 *RST/NMI/SBWTDIO (io), 24 P2.0/TB0.6/UCA0TXD/UCA0SIMO/TB0CLK/ACLK (io), 25 P2.1/TB0.0/UCA0RXD/UCA0SOMI/TB0.0 (io), 26 P2.2/TB0.2/UCB0CLK (io), 27 P3.4/TB0.3/SMCLK (io), 28 P3.5/TB0.4/COUT (io), 29 P3.6/TB0.5 (io), 30 P3.7/TB0.6 (io), 31 P1.6/TB0.3/UCB0SIMO/UCB0SDA/TA0.0 (io), 32 P1.7/TB0.4/UCB0SOMI/UCB0SCL/TA1.0 (io), 33 P4.4/TB0.5 (io), 34 P4.5 (io), 35 P4.6 (io), 36 DVSS (power), 37 DVCC (power), 38 P2.7 (io), 39 P2.3/TA0.0/UCA1STE/A6/C10 (io), 40 P2.4/TA1.0/UCA1CLK/A7/C11 (io), 41 AVSS (power), 42 PJ.6/HFXIN (io), 43 PJ.7/HFXOUT (io), 44 AVSS (power), 45 PJ.4/LFXIN (io), 46 PJ.5/LFXOUT (io), 47 AVSS (power), 48 AVCC (power), 49 EPAD
1 alternate drawing of the same symbol

## MSP430FR6989IPZR
designator U?
IC MCU 16BIT 128KB FRAM 100LQFP; Manufacturer: Texas Instruments; Mount Type: SMD; Category: Microcontroller; Value: MSP430FR6989IPZR
footprint LQFP-100
pins: 1 P4.3/UCA0SOMI/UCA0RXD/UCB1STE (io), 2 P1.4/UCB0CLK/UCA0STE/TA1.0/S1 (io), 3 P1.5/UCB0STE/UCA0CLK/TA0.0/S0 (io), 4 P1.6/UCB0SIMO/UCB0SDA/TA0.1 (io), 5 P1.7/UCB0SOMI/UCB0SCL/TA0.2 (io), 6 R33/LCDCAP (io), 7 P6.0/R23 (io), 8 P6.1/R13/LCDREF (io), 9 P6.2/COUT/R03 (io), 10 P6.3/COM0 (io), 11 P6.4/TB0.0/COM1 (io), 12 P6.5/TB0.1/COM2 (io), 13 P6.6/TB0.2/COM3 (io), 14 P2.4/TB0.3/COM4/S43 (io), 15 P2.5/TB0.4/COM5/S42 (io), 16 P2.6/TB0.5/ESIC1OUT/COM6/S41 (io), 17 P2.7/TB0.6/ESIC2OUT/COM7/S40 (io), 18 P10.2/TA1.0/SMCLK/S39 (io), 19 P5.0/TA1.1/MCLK/S38 (io), 20 P5.1/TA1.2/S37 (io), 21 P5.2/TA1.0/TA1CLK/ACLK/S36 (io), 22 P5.3/UCB1STE/S35 (io), 23 P3.0/UCB1CLK/S34 (io), 24 P3.1/UCB1SIMO/UCB1SDA/S33 (io), 25 P3.2/UCB1SOMI/UCB1SCL/S32 (io), 26 DVSS1 (power), 27 DVCC1 (power), 28 TEST/SBWTCK (in), 29 *RST/NMI/SBWTDIO (io), 30 PJ.0/TDO/TB0OUTH/SMCLK/SRSCG1 (io), 31 PJ.1/TDI/TCLK/MCLK/SRSCG0 (io), 32 PJ.2/TMS/ACLK/SROSCOFF (io), 33 PJ.3/TCK/COUT/SRCPUOFF (io), 34 P6.7/TA0CLK/S31 (io), 35 P7.5/TA0.2/S30 (io), 36 P7.6/TA0.1/S29 (io), 37 P10.1/TA0.0/S28 (io), 38 P7.7/TA1.2/TB0OUTH/S27 (io), 39 P3.3/TA1.1/TB0CLK/S26 (io), 40 P3.4/UCA1SIMO/UCA1TXD/TB0.0/S25 (io), 41 P3.5/UCA1SOMI/UCA1RXD/TB0.1/S24 (io), 42 P3.6/UCA1CLK/TB0.2/S23 (io), 43 P3.7/UCA1STE/TB0.3/S22 (io), 44 P8.0/RTCCLK/S21 (io), 45 P8.1/DMAE0/S20 (io), 46 P8.2/S19 (io), 47 P8.3/MCLK/S18 (io), 48 P2.3/UCA0STE/TB0OUTH (io), 49 P2.2/UCA0CLK/TB0.4/RTCCLK (io), 50 P2.1/UCA0SOMI/UCA0RXD/TB0.5/DMAE0 (io), 51 P2.0/UCA0SIMO/UCA0TXD/TB0.6/TB0CLK (io), 52 P7.0/TA0CLK/S17 (io), 53 P7.1/TA0.0/S16 (io), 54 P7.2/TA0.1/S15 (io), 55 P7.3/TA0.2/S14 (io), 56 P7.4/SMCLK/S13 (io), 57 DVSS2 (power), 58 DVCC2 (power), 59 P8.4/A7/C7 (io), 60 P8.5/A6/C6 (io), 61 P8.6/A5/C5 (io), 62 P8.7/A4/C4 (io), 63 P1.3/TA1.2 /A3/C3 (io), 64 P1.2/TA1.1/TA0CLK/COUT/A2/C2 (io), 65 P1.1/TA0.2/TA1CLK/COUT/A1/C1/VREF+/VeREF+ (io), 66 P1.0/TA0.1/DMAE0/RTCCLK/A0/C0/VREF-/VeREF- (io), 67 P9.0/ESICH0/ESITEST0/A8/C8 (io), 68 P9.1/ESICH1/ESITEST1/A9/C9 (io), 69 P9.2/ESICH2/ESITEST2/A10/C10 (io), 70 P9.3/ESICH3/ESITEST3/A11/C11 (io), 71 P9.4/ESICI0/A12/C12 (io), 72 P9.5/ESICI1/A13/C13 (io), 73 P9.6/ESICI2/A14/C14 (io), 74 P9.7/ESICI3/A15/C15 (io), 75 ESIDVCC (power), 76 ESIDVSS (power), 77 ESICI (in), 78 ESICOM, 79 AVCC1 (power), 80 AVSS3 (power), 81 PJ.7/HFXOUT (io), 82 PJ.6/HFXIN (io), 83 AVSS1 (power), 84 PJ.4/LFXIN (io), 85 PJ.5/LFXOUT (io), 86 AVSS2 (power), 87 P5.4/UCA1SIMO/UCA1TXD/S12 (io), 88 P5.5/UCA1SOMI/UCA1RXD/S11 (io), 89 P5.6/UCA1CLK/S10 (io), 90 P5.7/UCA1STE/TB0CLK/S9 (io), 91 P4.4/UCB1STE/TA1CLK/S8 (io), 92 P4.5/UCB1CLK/TA1.0/S7 (io), 93 P4.6/UCB1SIMO/UCB1SDA/TA1.1/S6 (io), 94 P4.7/UCB1SOMI/UCB1SCL/TA1.2/S5 (io), 95 P10.0/SMCLK/S4 (io), 96 P4.0/UCB1SIMO/UCB1SDA/MCLK/S3 (io), 97 P4.1/UCB1SOMI/UCB1SCL/ACLK/S2 (io), 98 DVSS3 (power), 99 DVCC3 (power), 100 P4.2/UCA0SIMO/UCA0TXD/UCB1CLK (io)
1 alternate drawing of the same symbol

## MSP430G2452IN20
designator U?  value MSP430G2452  (hidden comment: MSP430G2452IN20)
IC MCU 16BIT 8KB FLASH 20PDIP; Manufacturer: Texas Instruments; Mount Type: SMD; Category: Microcontroller; Supplier 1: Mouser; Supplier 2: Digi-Key; Supplier 3: Farnell; Supplier 4: Arrow; Supplier 5: Newark; Supplier Part Number 1: 595-MSP430G2452IN20; Supplier Part Number 2: 296-28123-5-ND; Supplier Part Number 3: 1865383; Supplier Part Number 4: 50268246S8830327N7713; Supplier Part Number 5: 24T4725
footprint DIP-20 (DIP, 20-Pin, Row Spacing 7.62 mm, Pitch 2.54 mm)
pins: 1 DVCC (power), 2 P1.0/TA0CLK/A0 (io), 3 P1.1/TA0.0/A1 (io), 4 P1.2/TA0.1/A2 (io), 5 P1.3/VREF-/A3 (io), 6 P1.4/VREF+/A4 (io), 7 P1.5/TA0.0/A5 (io), 8 P2.0 (io), 9 P2.1 (io), 10 P2.2, 11 P2.3 (io), 12 P2.4 (io), 13 P2.5 (io), 14 P1.6/TA0.1/SCL/A6 (io), 15 P1.7/SDA/A7 (io), 16 ~{RST}/NMI (io), 17 TEST (io), 18 P2.7/XOUT (io), 19 P2.6/XIN (io), 20 DVSS (io)

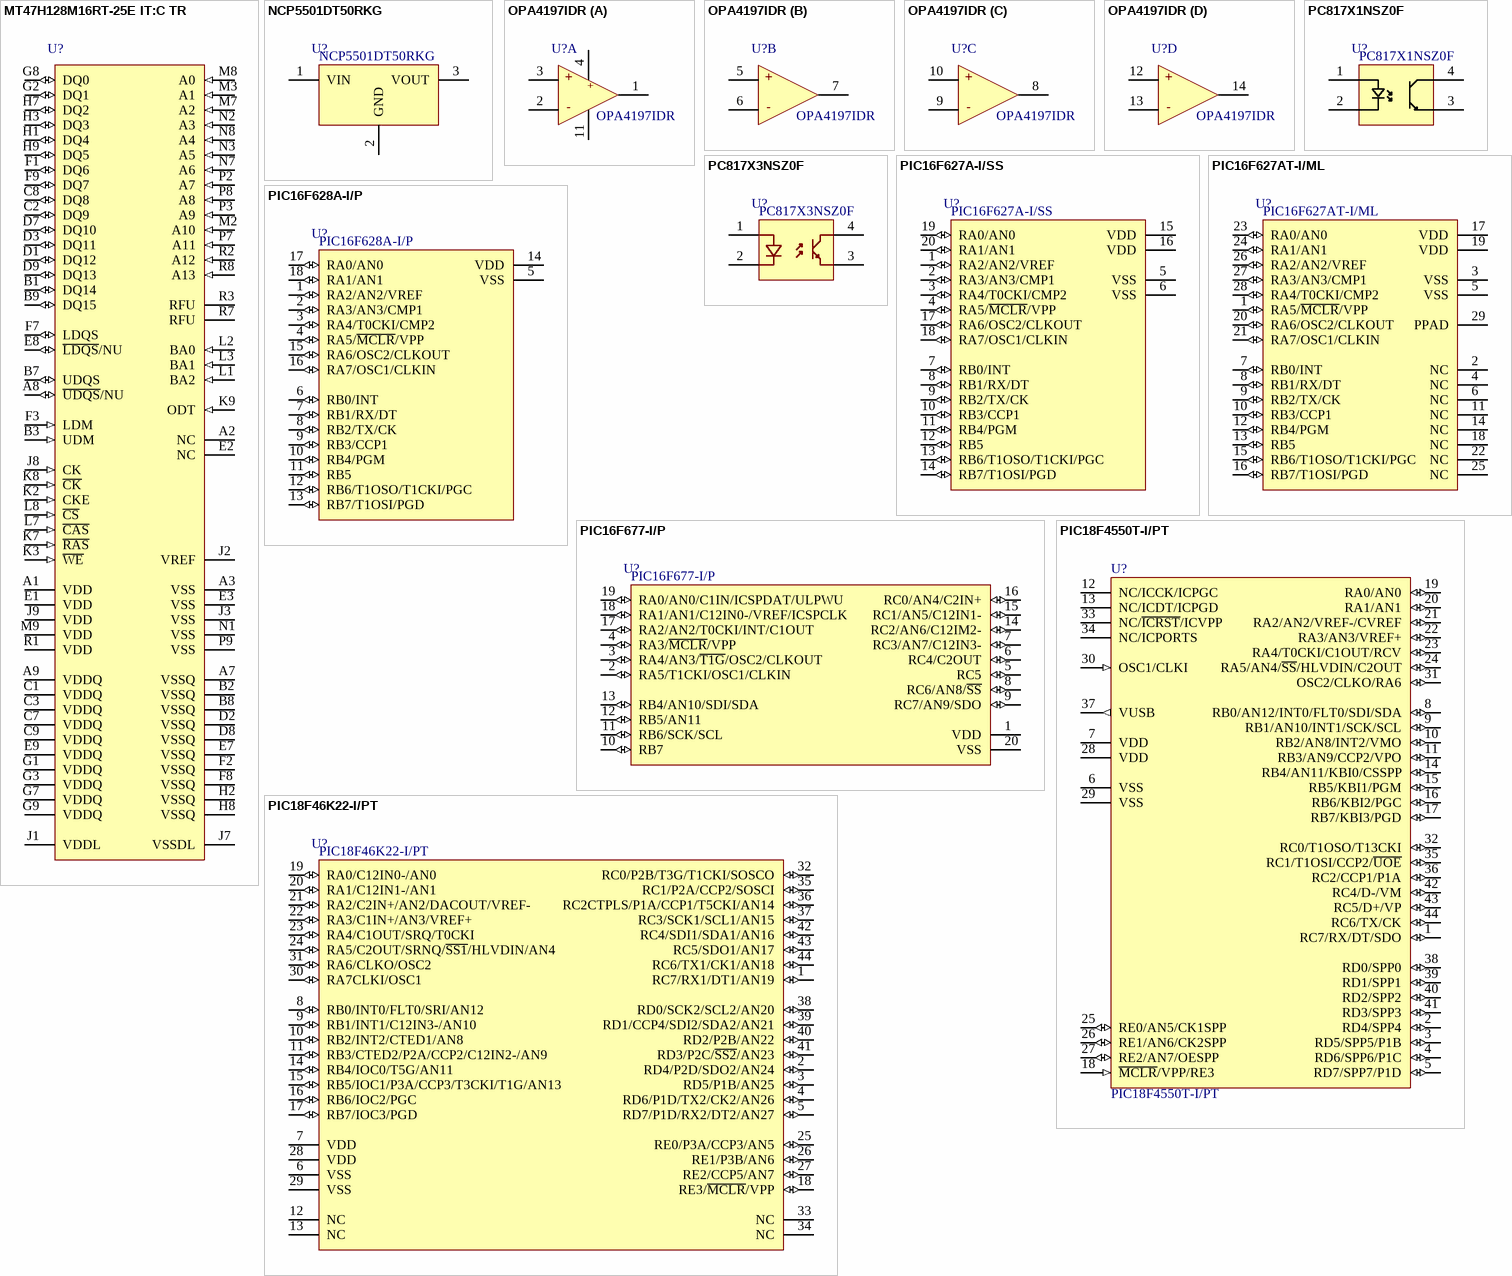
[diagram p7: symbols MT47H128M16RT-25E IT:C TR to PIC18F4550T-I/PT]

## MT47H128M16RT-25E IT:C TR
designator U?  (value not drawn)
IC DRAM 2G PARALLEL 84FBGA; Manufacturer: Micron Technology Inc.; Mount Type: SMD; Category: Memory; Value: MT47H128M16RT-25E IT:C TR
footprint FBGA-84
pins: A1 VDD (power), A2 NC, A3 VSS (power), A7 VSSQ (power), A8 ~{UDQS}/NU (io), A9 VDDQ (power), B1 DQ14 (io), B2 VSSQ (power), B3 UDM (in), B7 UDQS (io), B8 VSSQ (power), B9 DQ15 (io), C1 VDDQ (power), C2 DQ9 (io), C3 VDDQ (power), C7 VDDQ (power), C8 DQ8 (io), C9 VDDQ (power), D1 DQ12 (io), D2 VSSQ (power), D3 DQ11 (io), D7 DQ10 (io), D8 VSSQ (power), D9 DQ13 (io), E1 VDD (power), E2 NC, E3 VSS (power), E7 VSSQ (power), E8 ~{LDQS}/NU (io), E9 VDDQ (power), F1 DQ6 (io), F2 VSSQ (power), F3 LDM (in), F7 LDQS (io), F8 VSSQ (power), F9 DQ7 (io), G1 VDDQ (power), G2 DQ1 (io), G3 VDDQ (power), G7 VDDQ (power), G8 DQ0 (io), G9 VDDQ (power), H1 DQ4 (io), H2 VSSQ (power), H3 DQ3 (io), H7 DQ2 (io), H8 VSSQ (power), H9 DQ5 (io), J1 VDDL (power), J2 VREF (power), J3 VSS (power), J7 VSSDL (power), J8 CK (in), J9 VDD (power), K2 CKE (in), K3 ~{WE} (in), K7 ~{RAS} (in), K8 ~{CK} (in), K9 ODT (in), L1 BA2 (in), L2 BA0 (in), L3 BA1 (in), L7 ~{CAS} (in), L8 ~{CS} (in), M2 A10 (in), M3 A1 (in), M7 A2 (in), M8 A0 (in), M9 VDD (power), N1 VSS (power), N2 A3 (in), N3 A5 (in), N7 A6 (in), N8 A4 (in), P2 A7 (in), P3 A9 (in), P7 A11 (in), P8 A8 (in), P9 VSS (power), R1 VDD (power), R2 A12 (in), R3 RFU, R7 RFU, R8 A13 (in)
1 alternate drawing of the same symbol

## NCP5501DT50RKG
designator U?
IC REG LDO 5V 0.5A DPAK; Manufacturer: ON Semiconductor; Category: Regulator; Mount Type: SMD; Supplier 2: Farnell; Supplier 3: Newark; Supplier 4: Mouser; Supplier Part Number 2: 1703369; Supplier Part Number 3: 02M9834; Supplier Part Number 4: 863-NCP5501DT50RKG; Supplier 1: Digi-Key; Supplier Part Number 1: NCP5501DT50RKGOSCT-ND; Value: NCP5501DT50RKG
footprint TO-252 (TO-252-3, DPak (2 Leads + Tab), SC-63)
pins: 1 VIN (power), 2 GND, 3 VOUT

## OPA4197IDR
designator U?
IC OP AMP RR 10MHZ 14SOIC; Manufacturer: Texas Instruments; Mount Type: SMD; Category: Operational Amplifier; Supplier 1: Newark; Supplier Part Number 1: 04AC9311; Supplier 2: Digi-Key; Supplier Part Number 2: 296-45059-1-ND; Value: OPA4197IDR
footprint SOIC-14
simulation model OPA197 (IC OP AMP RR 10MHZ 14SOIC)
part A pins: 1 OUT, 2 -, 3 +, 4 V+, 11 V-
part B pins: 5 +, 6 -, 7 OUT
part C pins: 8 OUT, 9 -, 10 +
part D pins: 12 +, 13 -, 14 OUT

## PC817X1NSZ0F
designator U?
OPTOISOLATOR 5KV TRANS 4DIP; Manufacturer: Sharp Microelectronics; Mount Type: SMD; Category: Optoisolator; Supplier 1: Farnell; Supplier Part Number 1: 2420047; Supplier 2: Digi-Key; Supplier Part Number 2: 425-2763-ND; Supplier 3: Newark; Supplier Part Number 3: 55X3057; Supplier 4: Mouser; Supplier Part Number 4: 852-PC817X1NSZ0F; Value: PC817X1NSZ0F
footprint DIP-4 (DIP, 4-Pin, Row Spacing 7.62 mm, Pitch 2.54 mm)
pins: 1 A, 2 K, 3 E, 4 C

## PC817X3NSZ0F
designator U?
OPTOISOLATOR 5KV TRANSISTOR 4SMD; Manufacturer: Sharp Microelectronics; Category: OPTOISOLATOR; Mount Type: PTH; Supplier 1: Farnell; Supplier 2: Newark; Supplier 3: Mouser; Supplier 4: Digi-Key; Supplier Part Number 1: 2420049; Supplier Part Number 2: 55X3061; Supplier Part Number 3: 852-PC817X3NSZ0F; Supplier Part Number 4: 425-2765-ND; Value: PC817X3NSZ0F
footprint DIP-4 (DIP, 4-Pin, Row Spacing 7.62 mm, Pitch 2.54 mm)
pins: 1, 2, 3, 4

## PIC16F627A-I/SS
designator U?
IC MCU 8BIT 1.75KB FLASH 20SSOP; Manufacturer: Microchip; Mount Type: SMD; Category: Microcontroller; Supplier 1: Farnell; Supplier 2: Digi-Key; Supplier 3: Newark; Supplier 4: Mouser; Supplier Part Number 1: 9760350; Supplier Part Number 2: PIC16F627A-I/SS-ND; Supplier Part Number 3: 92C4517; Supplier Part Number 4: 579-PIC16F627A-I/SS; Value: PIC16F627A-I/SS
footprint SSOP20
pins: 1 RA2/AN2/VREF (io), 2 RA3/AN3/CMP1 (io), 3 RA4/T0CKI/CMP2 (io), 4 RA5/~{MCLR}/VPP (io), 5 VSS (power), 6 VSS (power), 7 RB0/INT (io), 8 RB1/RX/DT (io), 9 RB2/TX/CK (io), 10 RB3/CCP1 (io), 11 RB4/PGM (io), 12 RB5 (io), 13 RB6/T1OSO/T1CKI/PGC (io), 14 RB7/T1OSI/PGD (io), 15 VDD (power), 16 VDD (power), 17 RA6/OSC2/CLKOUT (io), 18 RA7/OSC1/CLKIN (io), 19 RA0/AN0 (io), 20 RA1/AN1 (io)

## PIC16F627AT-I/ML
designator U?
IC MCU 8BIT 1.75KB FLASH 28QFN; Manufacturer: Microchip; Mount Type: SMD; Category: Microcontroller; Supplier 1: Mouser; Supplier 2: Digi-Key; Supplier Part Number 1: 579-PIC16F627A-I/ML; Supplier Part Number 2: PIC16F627AT-I/ML-ND; Value: PIC16F627AT-I/ML
footprint QFN-28 (QFN, 28 Pin, 0,65mm Pitch)
pins: 1 RA5/~{MCLR}/VPP (io), 2 NC, 3 VSS (power), 4 NC, 5 VSS (power), 6 NC, 7 RB0/INT (io), 8 RB1/RX/DT (io), 9 RB2/TX/CK (io), 10 RB3/CCP1 (io), 11 NC, 12 RB4/PGM (io), 13 RB5 (io), 14 NC, 15 RB6/T1OSO/T1CKI/PGC (io), 16 RB7/T1OSI/PGD (io), 17 VDD (power), 18 NC, 19 VDD (power), 20 RA6/OSC2/CLKOUT (io), 21 RA7/OSC1/CLKIN (io), 22 NC, 23 RA0/AN0 (io), 24 RA1/AN1 (io), 25 NC, 26 RA2/AN2/VREF (io), 27 RA3/AN3/CMP1 (io), 28 RA4/T0CKI/CMP2 (io), 29 PPAD (power)

## PIC16F628A-I/P
designator U?
IC MCU 8BIT 3.5KB FLASH 18DIP; Manufacturer: Microchip; Mount Type: PTH; Category: Microcontroller; Supplier 1: Farnell; Supplier Part Number 1: 9759514; Supplier 2: Digi-Key; Supplier Part Number 2: PIC16F628A-I/P-ND; Supplier 3: Newark; Supplier Part Number 3: 92C4532; Supplier 4: Mouser; Supplier Part Number 4: 579-PIC16F628A-I/P; Value: PIC16F628A-I/P
footprint DIP-18 (DIP, 18-Pin, Row Spacing 7.62 mm, Pitch 2.54 mm)
pins: 1 RA2/AN2/VREF (io), 2 RA3/AN3/CMP1 (io), 3 RA4/T0CKI/CMP2 (io), 4 RA5/~{MCLR}/VPP (io), 5 VSS (power), 6 RB0/INT (io), 7 RB1/RX/DT (io), 8 RB2/TX/CK (io), 9 RB3/CCP1 (io), 10 RB4/PGM (io), 11 RB5 (io), 12 RB6/T1OSO/T1CKI/PGC (io), 13 RB7/T1OSI/PGD (io), 14 VDD (power), 15 RA6/OSC2/CLKOUT (io), 16 RA7/OSC1/CLKIN (io), 17 RA0/AN0 (io), 18 RA1/AN1 (io)

## PIC16F677-I/P
designator U?
IC MCU 8BIT 3.5KB FLASH 20DIP; Manufacturer: Microchip Technology; Mount Type: PTH; Category: Microcontroller; Supplier 1: Farnell; Supplier Part Number 1: 1332206; Supplier 2: Digi-Key; Supplier Part Number 2: PIC16F677-I/P-ND; Supplier 3: Newark; Supplier Part Number 3: 56J7509; Supplier 4: Mouser; Supplier Part Number 4: 579-PIC16F677-I/P; Value: PIC16F677-I/P
footprint DIP-20 (DIP, 20-Pin, Row Spacing 7.62 mm, Pitch 2.54 mm)
pins: 1 VDD (power), 2 RA5/T1CKI/OSC1/CLKIN (io), 3 RA4/AN3/~{T1G}/OSC2/CLKOUT (io), 4 RA3/~{MCLR}/VPP (io), 5 RC5 (io), 6 RC4/C2OUT (io), 7 RC3/AN7/C12IN3- (io), 8 RC6/AN8/~{SS} (io), 9 RC7/AN9/SDO (io), 10 RB7 (io), 11 RB6/SCK/SCL (io), 12 RB5/AN11 (io), 13 RB4/AN10/SDI/SDA (io), 14 RC2/AN6/C12IM2- (io), 15 RC1/AN5/C12IN1- (io), 16 RC0/AN4/C2IN+ (io), 17 RA2/AN2/T0CKI/INT/C1OUT (io), 18 RA1/AN1/C12IN0-/VREF/ICSPCLK (io), 19 RA0/AN0/C1IN/ICSPDAT/ULPWU (io), 20 VSS (power)

## PIC18F46K22-I/PT
designator U?
IC MCU 8BIT 64KB FLASH 44TQFP; Manufacturer: Microchip; Mount Type: SMD; Category: Microcontroller; Supplier 1: Mouser; Supplier 2: Newark; Supplier 3: Farnell; Supplier 4: Digi-Key; Supplier Part Number 1: 579-PIC18F46K22IPT; Supplier Part Number 2: 65R6013; Supplier Part Number 3: 1814980; Supplier Part Number 4: PIC18F46K22-I/PT-ND; Supplier 5: Arrow; Supplier Part Number 5: SbzNWCh7T9Rn0u0AMGJHye1A_p5dsHRYd3IEoxG9nITAOydKj33WpzqnNbIzpb_u; Value: PIC18F46K22-I/PT
footprint TQFP-44
pins: 1 RC7/RX1/DT1/AN19 (io), 2 RD4/P2D/SDO2/AN24 (io), 3 RD5/P1B/AN25 (io), 4 RD6/P1D/TX2/CK2/AN26 (io), 5 RD7/P1D/RX2/DT2/AN27 (io), 6 VSS (power), 7 VDD (power), 8 RB0/INT0/FLT0/SRI/AN12 (io), 9 RB1/INT1/C12IN3-/AN10 (io), 10 RB2/INT2/CTED1/AN8 (io), 11 RB3/CTED2/P2A/CCP2/C12IN2-/AN9 (io), 12 NC, 13 NC, 14 RB4/IOC0/T5G/AN11 (io), 15 RB5/IOC1/P3A/CCP3/T3CKI/T1G/AN13 (io), 16 RB6/IOC2/PGC (io), 17 RB7/IOC3/PGD (io), 18 RE3/~{MCLR}/VPP (io), 19 RA0/C12IN0-/AN0 (io), 20 RA1/C12IN1-/AN1 (io), 21 RA2/C2IN+/AN2/DACOUT/VREF- (io), 22 RA3/C1IN+/AN3/VREF+ (io), 23 RA4/C1OUT/SRQ/T0CKI (io), 24 RA5/C2OUT/SRNQ/~{SS1}/HLVDIN/AN4 (io), 25 RE0/P3A/CCP3/AN5 (io), 26 RE1/P3B/AN6 (io), 27 RE2/CCP5/AN7 (io), 28 VDD (power), 29 VSS (power), 30 RA7CLKI/OSC1 (io), 31 RA6/CLKO/OSC2 (io), 32 RC0/P2B/T3G/T1CKI/SOSCO (io), 33 NC, 34 NC, 35 RC1/P2A/CCP2/SOSCI (io), 36 RC2CTPLS/P1A/CCP1/T5CKI/AN14 (io), 37 RC3/SCK1/SCL1/AN15 (io), 38 RD0/SCK2/SCL2/AN20 (io), 39 RD1/CCP4/SDI2/SDA2/AN21 (io), 40 RD2/P2B/AN22 (io), 41 RD3/P2C/~{SS2}/AN23 (io), 42 RC4/SDI1/SDA1/AN16 (io), 43 RC5/SDO1/AN17 (io), 44 RC6/TX1/CK1/AN18 (io)

## PIC18F4550T-I/PT
designator U?
High Performance, Enhanced Flash, USB Microcontroller with nanoWatt Technology, 32K Flash, 44-Pin TQFP, Industrial Temperature Range; Manufacturer: Microchip Technology; Code_JEDEC: MS-026; PackageReference: TQFP-PT44; DatasheetVersion: revE, Aug-2008; PackageDescription: 44-Lead Plastic Thin Quad Flatpack (PT) - 10x10x1mm Body, 2.00mm [TQFP]; PackageVersion: revBB, Aug-2009; Supplier 1: Arrow; Supplier Part Number 1: SbzNWCh7T9Rn0u0AMGJHyTABJoks1AilNdIdGyIbbdrnEig6aI_WRwGSNCw4oZLp; Supplier 2: Farnell; Supplier Part Number 2: 9321365; Supplier 3: Digi-Key; Supplier Part Number 3: PIC18F4550T-I/PTDKR-ND; Supplier 4: Digi-Key; Supplier Part Number 4: PIC18F4550T-I/PTCT-ND
footprint TQFP-44
pins: 1 RC7/RX/DT/SDO (io), 2 RD4/SPP4 (io), 3 RD5/SPP5/P1B (io), 4 RD6/SPP6/P1C (io), 5 RD7/SPP7/P1D (io), 6 VSS (power), 7 VDD (power), 8 RB0/AN12/INT0/FLT0/SDI/SDA (io), 9 RB1/AN10/INT1/SCK/SCL (io), 10 RB2/AN8/INT2/VMO (io), 11 RB3/AN9/CCP2/VPO (io), 12 NC/ICCK/ICPGC, 13 NC/ICDT/ICPGD, 14 RB4/AN11/KBI0/CSSPP (io), 15 RB5/KBI1/PGM (io), 16 RB6/KBI2/PGC (io), 17 RB7/KBI3/PGD (io), 18 ~{MCLR}/VPP/RE3 (in), 19 RA0/AN0 (io), 20 RA1/AN1 (io), 21 RA2/AN2/VREF-/CVREF (io), 22 RA3/AN3/VREF+ (io), 23 RA4/T0CKI/C1OUT/RCV (io), 24 RA5/AN4/~{SS}/HLVDIN/C2OUT (io), 25 RE0/AN5/CK1SPP (io), 26 RE1/AN6/CK2SPP (io), 27 RE2/AN7/OESPP (io), 28 VDD (power), 29 VSS (power), 30 OSC1/CLKI (in), 31 OSC2/CLKO/RA6 (io), 32 RC0/T1OSO/T13CKI (io), 33 NC/~{ICRST}/ICVPP, 34 NC/ICPORTS, 35 RC1/T1OSI/CCP2/~{UOE} (io), 36 RC2/CCP1/P1A (io), 37 VUSB (out), 38 RD0/SPP0 (io), 39 RD1/SPP1 (io), 40 RD2/SPP2 (io), 41 RD3/SPP3 (io), 42 RC4/D-/VM (io), 43 RC5/D+/VP (io), 44 RC6/TX/CK (io)

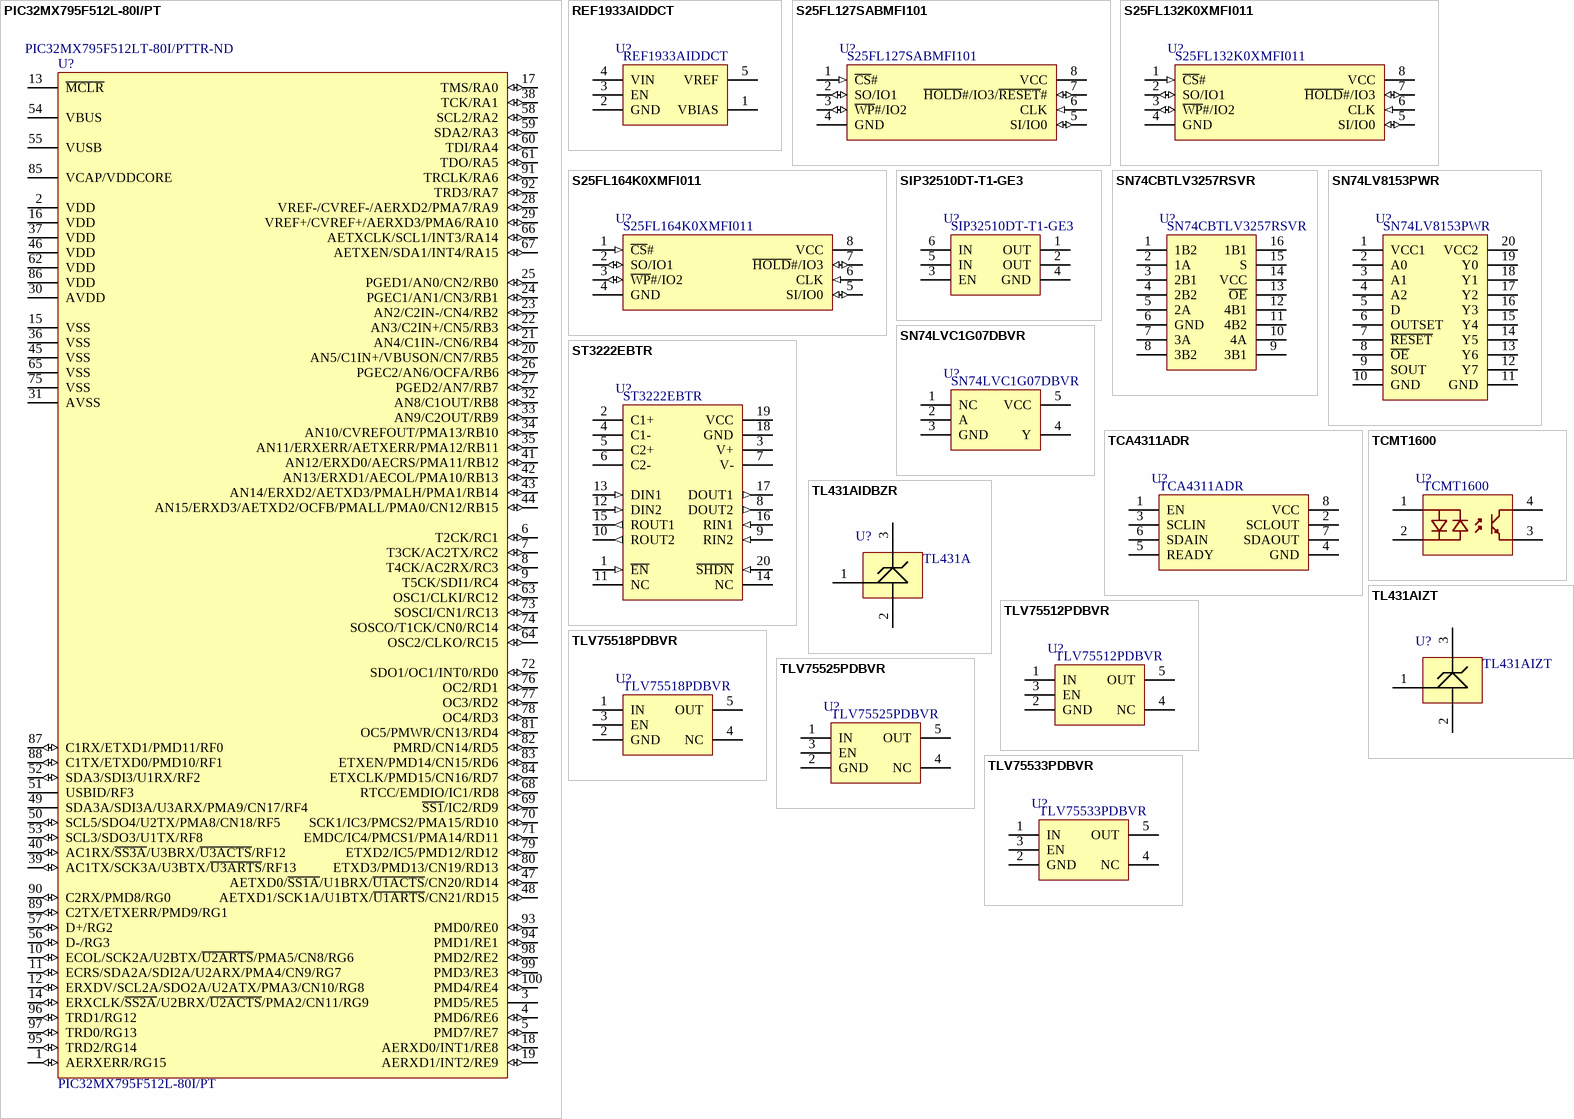
[diagram p8: symbols PIC32MX795F512L-80I/PT to TLV75533PDBVR]

## PIC32MX795F512L-80I/PT
designator U?  Supplier Part Number 3: PIC32MX795F512LT-80I/PTTR-ND
High Performance 80 MHz MIPS-Based 32-Bit Flash Microcontroller with USB, CAN and Ethernet, 512KB Program Memory, 100-pin TQFP, Industrial Temperature; Published: 2-Dec-2009; DatasheetVersion: revB, Nov-2009; PackageVersion: revBB, Aug-2009; PackageReference: TQFP-PT100; Publisher: Altium Limited; PackageDescription: 100-Lead Plastic Thin Quad Flatpack (PT) - 12x12x1mm Body, 2.00mm [TQFP]; Supplier 1: Digi-Key; Supplier Part Number 1: PIC32MX795F512L-80I/PT-ND; Supplier 2: Farnell; Supplier Part Number 2: 1778492; ComponentLink1Description: Datasheet; ComponentLink1URL: http://ww1.microchip.com/downloads/en/DeviceDoc/DS-61156B.pdf; ComponentLink2Description: Packaging Specification; ComponentLink2URL: http://ww1.microchip.com/downloads/en/PackagingSpec/en012702.pdf; ComponentLink3Description: Microchip.com Home; ComponentLink3URL: http://www.microchip.com/; Supplier 3: Digi-Key
footprint TQFP-PT100_N (Thin QFP, 100-Leads, Body 12x12mm, Pitch 0.4mm, IPC Medium Density)
footprint TQFP-PT100_L (Thin QFP, 100-Leads, Body 12x12mm, Pitch 0.4mm, IPC High Density)
footprint TQFP-PT100_M (Thin QFP, 100-Leads, Body 12x12mm, Pitch 0.4mm, IPC Low Density)
pins: 1 AERXERR/RG15 (io), 2 VDD (power), 3 PMD5/RE5, 4 PMD6/RE6 (io), 5 PMD7/RE7 (io), 6 T2CK/RC1 (io), 7 T3CK/AC2TX/RC2 (io), 8 T4CK/AC2RX/RC3 (io), 9 T5CK/SDI1/RC4 (io), 10 ECOL/SCK2A/U2BTX/~{U2ARTS}/PMA5/CN8/RG6 (io), 11 ECRS/SDA2A/SDI2A/U2ARX/PMA4/CN9/RG7 (io), 12 ERXDV/SCL2A/SDO2A/U2ATX/PMA3/CN10/RG8 (io), 13 ~{MCLR}, 14 ERXCLK/~{SS2A}/U2BRX/~{U2ACTS}/PMA2/CN11/RG9 (io), 15 VSS (power), 16 VDD (power), 17 TMS/RA0 (io), 18 AERXD0/INT1/RE8 (io), 19 AERXD1/INT2/RE9 (io), 20 AN5/C1IN+/VBUSON/CN7/RB5 (io), 21 AN4/C1IN-/CN6/RB4 (io), 22 AN3/C2IN+/CN5/RB3 (io), 23 AN2/C2IN-/CN4/RB2 (io), 24 PGEC1/AN1/CN3/RB1 (io), 25 PGED1/AN0/CN2/RB0 (io), 26 PGEC2/AN6/OCFA/RB6 (io), 27 PGED2/AN7/RB7 (io), 28 VREF-/CVREF-/AERXD2/PMA7/RA9 (io), 29 VREF+/CVREF+/AERXD3/PMA6/RA10 (io), 30 AVDD (power), 31 AVSS (power), 32 AN8/C1OUT/RB8 (io), 33 AN9/C2OUT/RB9 (io), 34 AN10/CVREFOUT/PMA13/RB10 (io), 35 AN11/ERXERR/AETXERR/PMA12/RB11 (io), 36 VSS (power), 37 VDD (power), 38 TCK/RA1 (io), 39 AC1TX/SCK3A/U3BTX/~{U3ARTS}/RF13 (io), 40 AC1RX/~{SS3A}/U3BRX/~{U3ACTS}/RF12 (io), 41 AN12/ERXD0/AECRS/PMA11/RB12 (io), 42 AN13/ERXD1/AECOL/PMA10/RB13 (io), 43 AN14/ERXD2/AETXD3/PMALH/PMA1/RB14 (io), 44 AN15/ERXD3/AETXD2/OCFB/PMALL/PMA0/CN12/RB15 (io), 45 VSS (power), 46 VDD (power), 47 AETXD0/~{SS1A}/U1BRX/~{U1ACTS}/CN20/RD14 (io), 48 AETXD1/SCK1A/U1BTX/~{U1ARTS}/CN21/RD15 (io), 49 SDA3A/SDI3A/U3ARX/PMA9/CN17/RF4, 50 SCL5/SDO4/U2TX/PMA8/CN18/RF5 (io), 51 USBID/RF3, 52 SDA3/SDI3/U1RX/RF2 (io), 53 SCL3/SDO3/U1TX/RF8 (io), 54 VBUS, 55 VUSB (power), 56 D-/RG3 (io), 57 D+/RG2 (io), 58 SCL2/RA2 (io), 59 SDA2/RA3 (io), 60 TDI/RA4 (io), 61 TDO/RA5 (io), 62 VDD (power), 63 OSC1/CLKI/RC12 (io), 64 OSC2/CLKO/RC15 (io), 65 VSS (power), 66 AETXCLK/SCL1/INT3/RA14 (io), 67 AETXEN/SDA1/INT4/RA15 (io), 68 RTCC/EMDIO/IC1/RD8 (io), 69 ~{SS1}/IC2/RD9 (io), 70 SCK1/IC3/PMCS2/PMA15/RD10 (io), 71 EMDC/IC4/PMCS1/PMA14/RD11 (io), 72 SDO1/OC1/INT0/RD0 (io), 73 SOSCI/CN1/RC13 (io), 74 SOSCO/T1CK/CN0/RC14 (io), 75 VSS (power), 76 OC2/RD1 (io), 77 OC3/RD2 (io), 78 OC4/RD3 (io), 79 ETXD2/IC5/PMD12/RD12 (io), 80 ETXD3/PMD13/CN19/RD13 (io), 81 OC5/PMWR/CN13/RD4 (io), 82 PMRD/CN14/RD5 (io), 83 ETXEN/PMD14/CN15/RD6 (io), 84 ETXCLK/PMD15/CN16/RD7 (io), 85 VCAP/VDDCORE (power), 86 VDD (power), 87 C1RX/ETXD1/PMD11/RF0 (io), 88 C1TX/ETXD0/PMD10/RF1 (io), 89 C2TX/ETXERR/PMD9/RG1 (io), 90 C2RX/PMD8/RG0 (io), 91 TRCLK/RA6 (io), 92 TRD3/RA7 (io), 93 PMD0/RE0 (io), 94 PMD1/RE1 (io), 95 TRD2/RG14 (io), 96 TRD1/RG12 (io), 97 TRD0/RG13 (io), 98 PMD2/RE2 (io), 99 PMD3/RE3 (io), 100 PMD4/RE4 (io)

## REF1933AIDDCT
designator U?
IC VREF SERIES 3.3V SOT5; Manufacturer: Texas Instruments; Mount Type: SMD; Category: Memory; Supplier 1: Avnet; Supplier Part Number 1: REF1933AIDDCT/BKN; Supplier 2: Digi-Key; Supplier Part Number 2: 296-38444-1-ND; Supplier 3: Newark; Supplier Part Number 3: 94X2584; Supplier 4: Farnell; Supplier Part Number 4: 2450206; Value: REF1933AIDDCT
footprint SOT23-5
simulation model REF1933 (Model Description)
pins: 1 VBIAS, 2 GND, 3 EN, 4 VIN, 5 VREF

## S25FL127SABMFI101
designator U?
IC FLASH 128MBIT 108MHZ 8SOIC; Manufacturer: Spansion; Mount type: SMD; Category: Memory; Supplier 1: Digi-Key; Supplier Part Number 1: 1274-1045-ND; Value: S25FL127SABMFI101
footprint SOIC-8-S2A (SOIC, 8-Leads, Body 5.3x7.5mm, Pitch 1.27mm, IPC Medium Density)
pins: 1 ~{CS}# (in), 2 SO/IO1 (io), 3 ~{WP}#/IO2 (io), 4 GND (power), 5 SI/IO0 (io), 6 CLK (in), 7 ~{HOLD}#/IO3/~{RESET}# (io), 8 VCC (power)

## S25FL132K0XMFI011
designator U?
IC FLASH MEM 32MB SPI CMOS 8SOIC; Manufacturer: Spansion; Mount type: SMD; Category: Memory; Supplier 1: Mouser; Supplier Part Number 1: 797-25FL132K0XMFI011; Supplier 2: Farnell; Supplier Part Number 2: 2377544; Supplier 3: Digi-Key; Supplier Part Number 3: 1274-1132-ND; Value: S25FL132K0XMFI011
footprint SOIC-8-S2A (SOIC, 8-Leads, Body 5.3x7.5mm, Pitch 1.27mm, IPC Medium Density)
pins: 1 ~{CS}# (in), 2 SO/IO1 (io), 3 ~{WP}#/IO2 (io), 4 GND (power), 5 SI/IO0 (io), 6 CLK (in), 7 ~{HOLD}#/IO3 (io), 8 VCC (power)

## S25FL164K0XMFI011
designator U?
IC FLASH 64MBIT 8SO; Manufacturer: Spansion; Mount type: SMD; Category: Memory; Supplier 1: Mouser; Supplier Part Number 1: 797-25FL164K0XMFI010; Supplier 2: Farnell; Supplier Part Number 2: 2363323; Supplier 3: Digi-Key; Supplier Part Number 3: 1274-1097-ND; Value: S25FL164K0XMFI011
footprint SOIC-8-S2A (SOIC, 8-Leads, Body 5.3x7.5mm, Pitch 1.27mm, IPC Medium Density)
pins: 1 ~{CS}# (in), 2 SO/IO1 (io), 3 ~{WP}#/IO2 (io), 4 GND (power), 5 SI/IO0 (io), 6 CLK (in), 7 ~{HOLD}#/IO3 (io), 8 VCC (power)

## SIP32510DT-T1-GE3
designator U?
IC LOAD SWITCH SOT23-6; Manufacturer: Vishay Siliconix; Mount Type: SMD; Category: Switch; Supplier 1: Newark; Supplier Part Number 1: 12X8792; Supplier 2: Arrow; Supplier Part Number 2: e-Ld4YZXhBAr4OPbtfSBwuK4mMcO_DAV8KvxQogVRcxirWDTtGmtott4fUuvrZ15; Supplier 3: Farnell; Supplier Part Number 3: 2361514; Supplier 4: Digi-Key; Supplier Part Number 4: SIP32510DT-T1-GE3CT-ND; Value: SIP32510DT-T1-GE3
footprint SOT23-6
pins: 1 OUT, 2 OUT, 3 EN, 4 GND, 5 IN, 6 IN

## SN74CBTLV3257RSVR
designator U?
IC 4BIT 1-4 FET MUX/DEMUX 16UQFN; Manufacturer: Texas Instruments; Mount Type: SMD; Category: Multiplexer/Demultiplexer; Value: SN74CBTLV3257RSVR
footprint UQFN-16
pins: 1 1B2, 2 1A, 3 2B1, 4 2B2, 5 2A, 6 GND, 7 3A, 8 3B2, 9 3B1, 10 4A, 11 4B2, 12 4B1, 13 ~{OE}, 14 VCC, 15 S, 16 1B1
1 alternate drawing of the same symbol

## SN74LV8153PWR
designator U?
IC SERIAL-PARALLEL INTRF 20TSSOP; Manufacturer: Texas Instruments; Mount Type: SMD; Category: Interface; Supplier 1: Newark; Supplier 2: Digi-Key; Supplier 3: Mouser; Supplier 4: Farnell; Supplier Part Number 1: 50R6759; Supplier Part Number 2: 296-34066-5-ND; Supplier Part Number 3: 595-SN74LV8153PW; Supplier Part Number 4: 1741443; Value: SN74LV8153PWR
footprint TSSOP-20
pins: 1 VCC1, 2 A0, 3 A1, 4 A2, 5 D, 6 OUTSET, 7 ~{RESET}, 8 ~{OE}, 9 SOUT, 10 GND, 11 GND, 12 Y7, 13 Y6, 14 Y5, 15 Y4, 16 Y3, 17 Y2, 18 Y1, 19 Y0, 20 VCC2

## SN74LVC1G07DBVR
designator U?
IC BUF NON-INVERT 5.5V SOT23-5; Manufacturer: Texas Instruments; Mount Type: SMD; Category: Logic; Value: SN74LVC1G07DBVR
footprint SOT23-5
pins: 1 NC, 2 A, 3 GND (power), 4 Y, 5 VCC (power)
1 alternate drawing of the same symbol

## ST3222EBTR
designator U?
IC DRVR/RCVR RS232 LPESD 20TSSOP; Manufacturer: STMicroelectronics; Mount Type: SMD; Category: Driver; Supplier 1: Digi-Key; Supplier Part Number 1: 497-6532-1-ND; Supplier 2: Farnell; Supplier Part Number 2: 2251864; Supplier 3: Mouser; Supplier Part Number 3: 511-ST3222EB; Value: ST3222EBTR
footprint TSSOP-20
pins: 1 ~{EN} (in), 2 C1+, 3 V+, 4 C1-, 5 C2+, 6 C2-, 7 V-, 8 DOUT2 (out), 9 RIN2 (in), 10 ROUT2 (out), 11 NC, 12 DIN2 (in), 13 DIN1 (in), 14 NC, 15 ROUT1 (out), 16 RIN1 (in), 17 DOUT1 (out), 18 GND (power), 19 VCC (power), 20 ~{SHDN} (in)

## TCA4311ADR
designator U?
IC ACCELERATOR I2C HOTSWAP 8SOIC; Manufacturer: Texas Instruments; Mount Type: SMD; Category: Interface; Value: TCA4311ADR
footprint SOIC-8 (SOIC, 8 Pin, Pitch 1,27mm)
pins: 1 EN, 2 SCLOUT, 3 SCLIN, 4 GND, 5 READY, 6 SDAIN, 7 SDAOUT, 8 VCC
1 alternate drawing of the same symbol

## TCMT1600
designator U?
OPTOCOUPLER TRANS 3.75KVRMS 4SO; Manufacturer: Vishay Semiconductor Opto Division; Mount Type: SMD; Category: Optocoupler; Supplier 1: Newark; Supplier 2: Mouser; Supplier 3: Allied; Supplier 4: Digi-Key; Supplier 5: Farnell; Supplier Part Number 1: 22H1088; Supplier Part Number 2: 78-TCMT1600; Supplier Part Number 3: R1083243; Supplier Part Number 4: 751-1374-1-ND; Supplier Part Number 5: 1469543; Value: TCMT1600
footprint SOP-4 (SOP, 4 Pin, 1.27mm Pitch)
pins: 1, 2, 3, 4

## TL431AIDBZR
designator U?  value TL431A  (hidden comment: TL431AIDBZR)
IC VREF SHUNT ADJ SOT23-3; Manufacturer: Texas Instruments; Category: VREF SHUNT ADJ; Mount Type: SMD; Supplier 1: Newark; Supplier Part Number 1: 91T5101; Supplier 2: Farnell; Supplier Part Number 2: 2453929; Supplier 3: Mouser; Supplier Part Number 3: 771-TL431AIDBZR215; Supplier 4: Digi-Key; Supplier Part Number 4: 568-4891-1-ND
footprint SOT-23 (SOT23, 3-Leads, Body 2.92x1.3mm, Pitch 0.95mm)
pins: 1 REF, 2 A, 3 K

## TL431AIZT
designator U?
IC VREF SHUNT ADJ TO-92; Manufacturer: STMicroelectronics; Category: VREF SHUNT ADJ; Mount Type: PTH; Supplier 1: Farnell; Supplier 2: Newark; Supplier 3: Mouser; Supplier 4: Digi-Key; Supplier Part Number 1: 1795538; Supplier Part Number 2: 42K2688; Supplier Part Number 3: 511-TL431AIZT; Supplier Part Number 4: 497-2226-1-ND; Value: TL431AIZT
footprint TO-92 - 2.54mm
pins: 1 REF, 2 A, 3 K

## TLV75512PDBVR
designator U?
IC REG LINEAR 1.2V 500MA SOT23-5; Manufacturer: Texas Instruments; Mount Type: SMD; Category: Regulator; Value: TLV75512PDBVR
footprint SOT23-5
pins: 1 IN, 2 GND, 3 EN, 4 NC, 5 OUT
1 alternate drawing of the same symbol

## TLV75518PDBVR
designator U?
IC REG LINEAR 1.8V 500MA SOT23-5; Manufacturer: Texas Instruments; Mount Type: SMD; Category: Regulator; Value: TLV75518PDBVR
footprint SOT23-5
pins: 1 IN, 2 GND, 3 EN, 4 NC, 5 OUT
1 alternate drawing of the same symbol

## TLV75525PDBVR
designator U?
IC REG LINEAR 2.5V 500MA SOT23-5; Manufacturer: Texas Instruments; Mount Type: SMD; Category: Regulator; Value: TLV75525PDBVR
footprint SOT23-5
pins: 1 IN, 2 GND, 3 EN, 4 NC, 5 OUT
1 alternate drawing of the same symbol

## TLV75533PDBVR
designator U?
IC REG LINEAR 3.3V 500MA SOT23-5; Manufacturer: Texas Instruments; Mount Type: SMD; Category: Regulator; Value: TLV75533PDBVR
footprint SOT23-5
pins: 1 IN, 2 GND, 3 EN, 4 NC, 5 OUT
1 alternate drawing of the same symbol

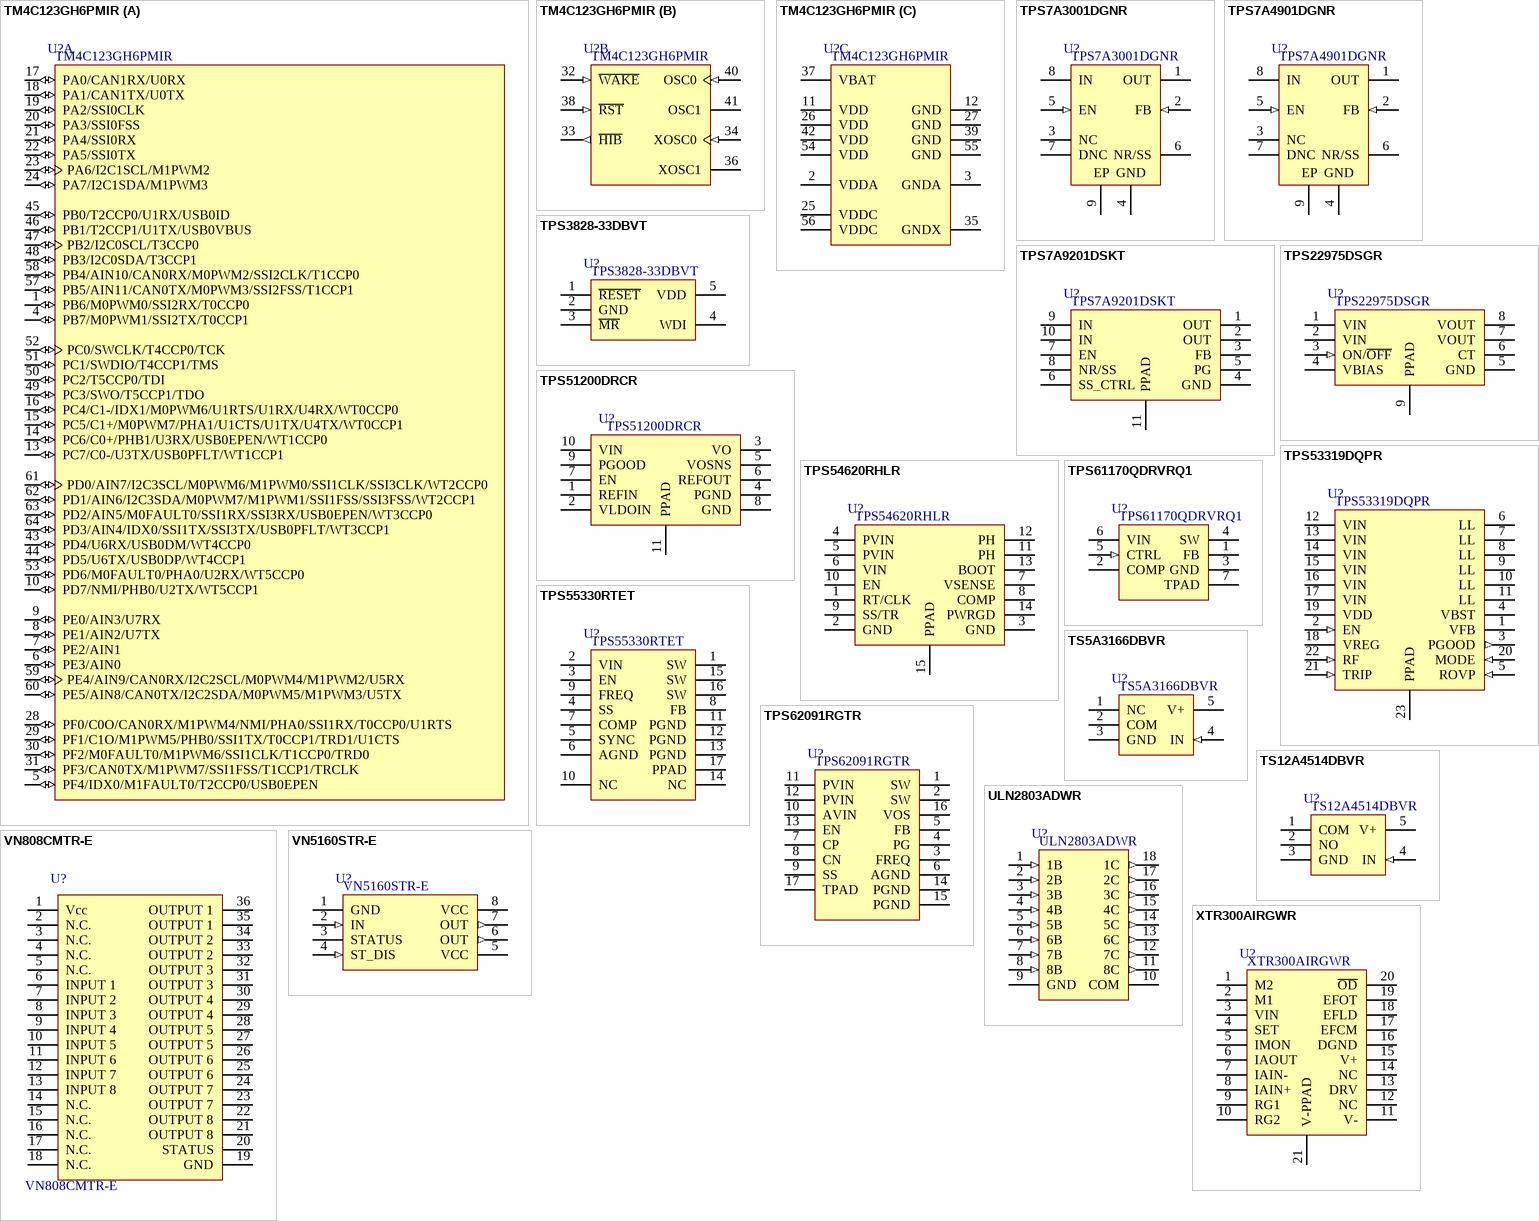
[diagram p9: symbols TM4C123GH6PMIR to XTR300AIRGWR]